# Altium integrated library Разъемы-mm.IntLib: 107 symbols
Pins are listed as number, name and electrical type; pins without a type are passive.

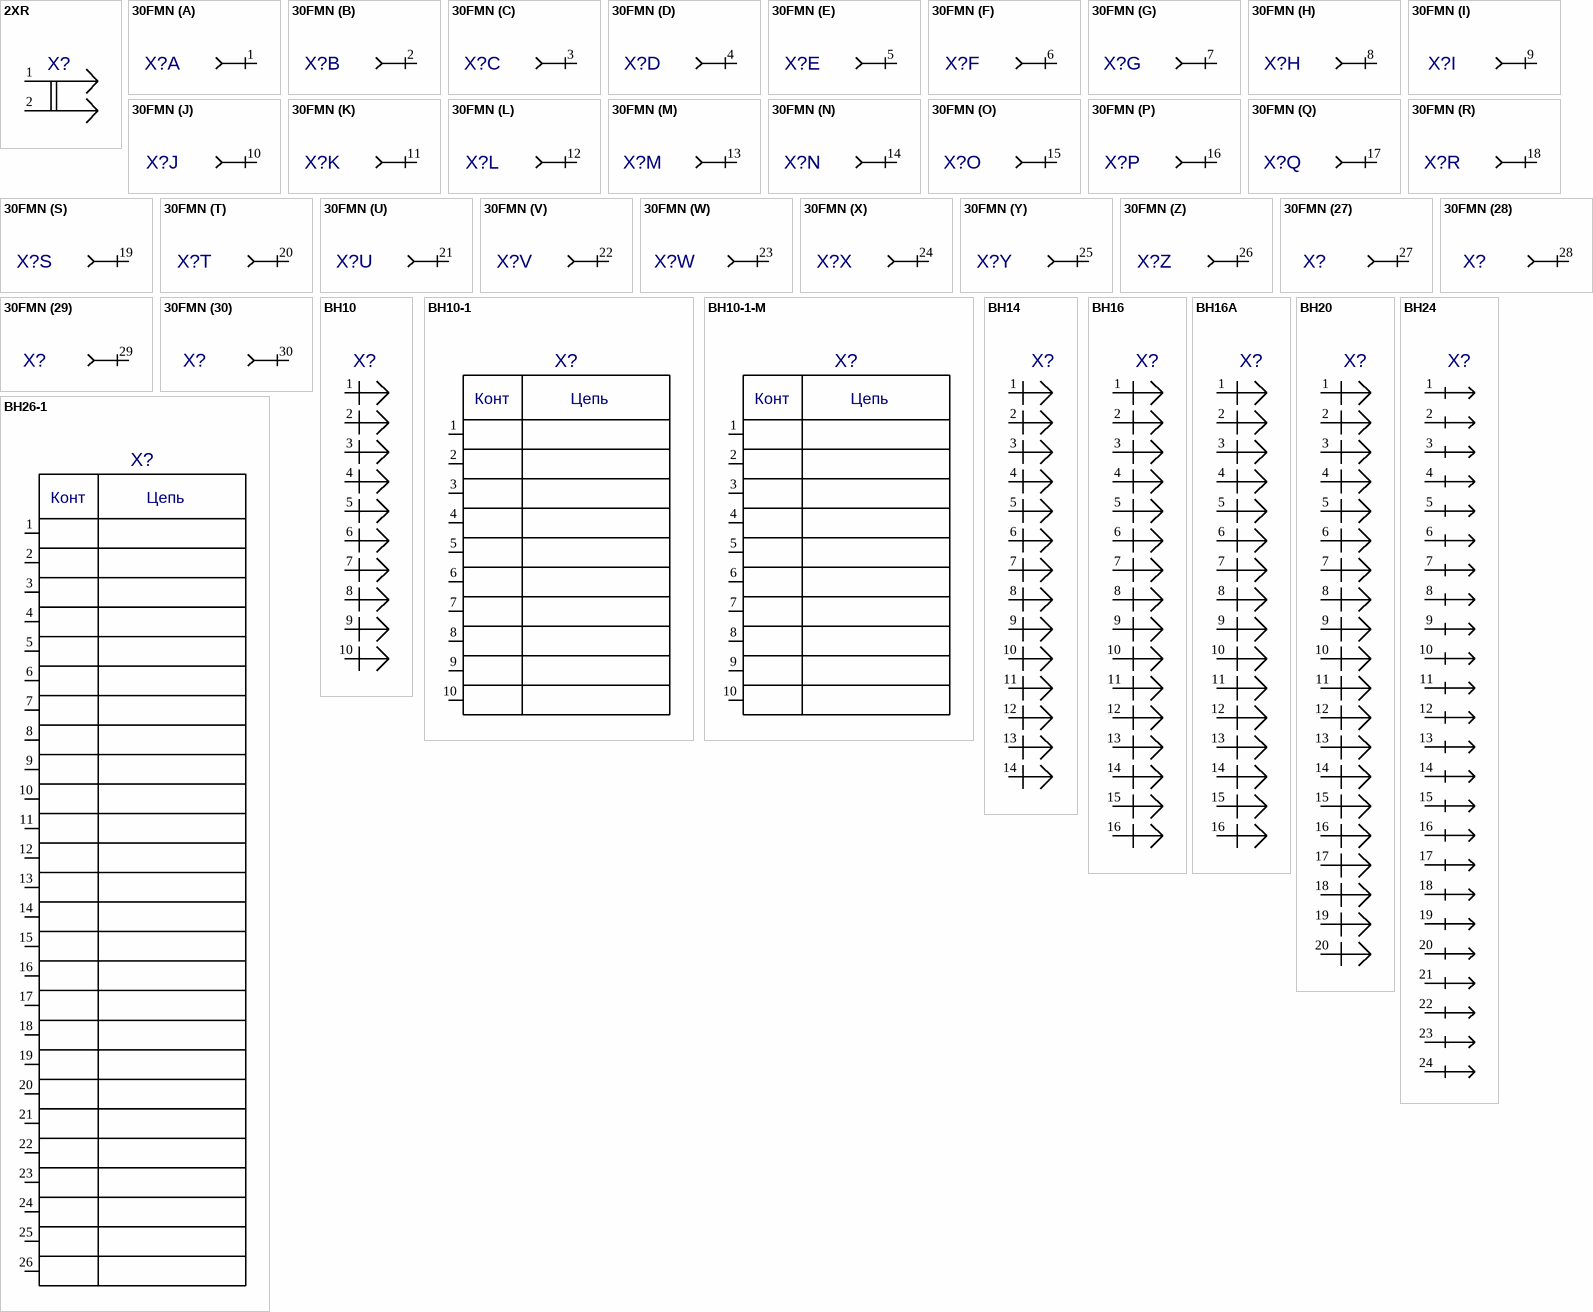
[diagram p0: symbols 2XR to BH26-1]

## 2XR
designator X?  (value not drawn)
Value: *
footprint 2XR
pins: 1 I/O1, 2 I/O2

## 30FMN
designator X?  (value not drawn)
Value: *
footprint 30FMN
part A pins: 1 i/o
part B pins: 2 i/o
part C pins: 3 i/o
part D pins: 4 i/o
part E pins: 5 i/o
part F pins: 6 i/o
part G pins: 7 i/o
part H pins: 8 i/o
part I pins: 9 i/o
part J pins: 10 i/o
part K pins: 11 i/o
part L pins: 12 i/o
part M pins: 13 i/o
part N pins: 14 i/o
part O pins: 15 i/o
part P pins: 16 i/o
part Q pins: 17 i/o
part R pins: 18 i/o
part S pins: 19 i/o
part T pins: 20 i/o
part U pins: 21 i/o
part V pins: 22 i/o
part W pins: 23 i/o
part X pins: 24 i/o
part Y pins: 25 i/o
part Z pins: 26 i/o
part 27 pins: 27 i/o
part 28 pins: 28 i/o
part 29 pins: 29 i/o
part 30 pins: 30 i/o

## BH10
designator X?  (value not drawn)
Value: *
footprint BH10
pins: 1 I/O1, 2 I/O2, 3 I/O3, 4 I/O4, 5 I/O5, 6 I/O6, 7 I/O7, 8 I/O8, 9 I/O9, 10 I/O10

## BH10-1
designator X?  (value not drawn)
Value: *
footprint BH10
pins: 1 I/O1, 2 I/O2, 3 I/O3, 4 I/O4, 5 I/O5, 6 I/O6, 7 I/O7, 8 I/O8, 9 I/O9, 10 I/O10
text: Конт; Цепь

## BH10-1-M
designator X?  (value not drawn)
Value: *
footprint BH10-M
pins: 1 I/O1, 2 I/O2, 3 I/O3, 4 I/O4, 5 I/O5, 6 I/O6, 7 I/O7, 8 I/O8, 9 I/O9, 10 I/O10
text: Конт; Цепь

## BH14
designator X?  (value not drawn)
Value: *
footprint BH14
pins: 1 I/O4, 2 I/O5, 3 I/O6, 4 I/O7, 5 I/O8, 6 I/O9, 7 I/O10, 8 I/O11, 9 I/O12, 10 I/O13, 11 I/O14, 12 I/O1, 13 I/O2, 14 I/O3

## BH16
designator X?  (value not drawn)
Value: *
footprint BH16
pins: 1, 2, 3, 4, 5, 6, 7, 8, 9, 10, 11, 12, 13, 14, 15, 16

## BH16A
designator X?  (value not drawn)
Value: *
footprint BH16A
pins: 1 I/O1, 2 I/O2, 3 I/O3, 4 I/O4, 5 I/O5, 6 I/O6, 7 I/O7, 8 I/O8, 9 I/O9, 10 I/O10, 11 I/O11, 12 I/O12, 13 I/O13, 14 I/O14, 15 I/O15, 16 I/O16

## BH20
designator X?  (value not drawn)
Value: *
footprint BH20
pins: 1 I/O4, 2 I/O5, 3 I/O6, 4 I/O7, 5 I/O8, 6 I/O9, 7 I/O10, 8 I/O11, 9 I/O12, 10 I/O13, 11 I/O14, 12 I/O15, 13 I/O16, 14 I/O17, 15 I/O18, 16 I/O19, 17 I/O20, 18 I/O1, 19 I/O2, 20 I/O3

## BH24
designator X?  (value not drawn)
Value: *
footprint BH24
pins: 1 I/O1, 2 I/O2, 3 I/O3, 4 I/O4, 5 I/O5, 6 I/O6, 7 I/O7, 8 I/O8, 9 I/O9, 10 I/O10, 11 I/O11, 12 I/O12, 13 I/O13, 14 I/O14, 15 I/O15, 16 I/O16, 17 I/O17, 18 I/O18, 19 I/O19, 20 I/O20, 21 I/O21, 22 I/O22, 23 I/O23, 24 I/O24

## BH26-1
designator X?  (value not drawn)
Value: *
footprint BH26
pins: 1 I/O1, 2 I/O2, 3 I/O3, 4 I/O4, 5 I/O5, 6 I/O6, 7 I/O7, 8 I/O8, 9 I/O9, 10 I/O10, 11 I/O11, 12 I/O12, 13 I/O13, 14 I/O14, 15 I/O15, 16 I/O16, 17 I/O17, 18 I/O18, 19 I/O19, 20 I/O20, 21 I/O21, 22 I/O22, 23 I/O23, 24 I/O24, 25 I/O25, 26 I/O26
text: Конт; Цепь

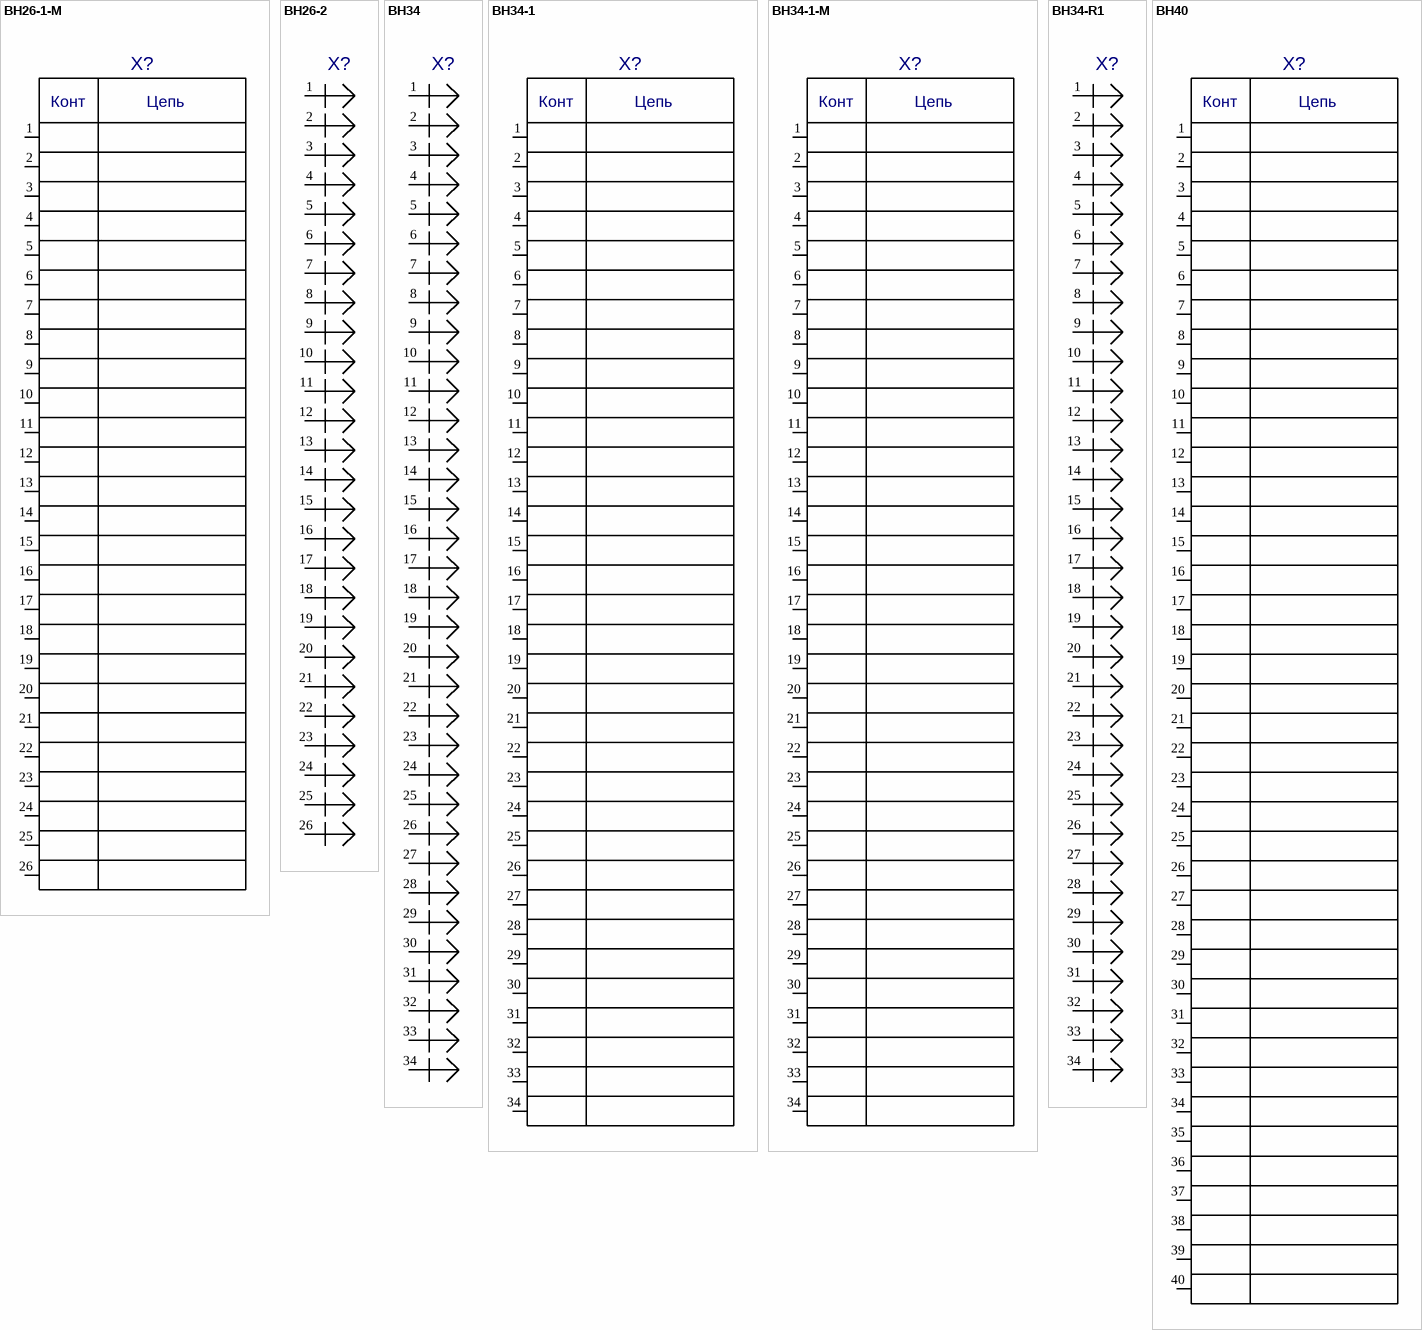
[diagram p1: symbols BH26-1-M to BH40]

## BH26-1-M
designator X?  (value not drawn)
Value: *
footprint BH26-M
pins: 1 I/O1, 2 I/O2, 3 I/O3, 4 I/O4, 5 I/O5, 6 I/O6, 7 I/O7, 8 I/O8, 9 I/O9, 10 I/O10, 11 I/O11, 12 I/O12, 13 I/O13, 14 I/O14, 15 I/O15, 16 I/O16, 17 I/O17, 18 I/O18, 19 I/O19, 20 I/O20, 21 I/O21, 22 I/O22, 23 I/O23, 24 I/O24, 25 I/O25, 26 I/O26
text: Конт; Цепь

## BH26-2
designator X?  (value not drawn)
Value: *
footprint BH26
pins: 1 I/O1, 2 I/O2, 3 I/O3, 4 I/O4, 5 I/O5, 6 I/O6, 7 I/O7, 8 I/O8, 9 I/O9, 10 I/O10, 11 I/O11, 12 I/O12, 13 I/O13, 14 I/O14, 15 I/O15, 16 I/O16, 17 I/O17, 18 I/O18, 19 I/O19, 20 I/O20, 21 I/O21, 22 I/O22, 23 I/O23, 24 I/O24, 25 I/O25, 26 I/O26

## BH34
designator X?  (value not drawn)
Value: *
footprint BH34
pins: 1 I/O1, 2 I/O2, 3 I/O3, 4 I/O4, 5 I/O5, 6 I/O6, 7 I/O7, 8 I/O8, 9 I/O9, 10 I/O10, 11 I/O11, 12 I/O12, 13 I/O13, 14 I/O14, 15 I/O15, 16 I/O16, 17 I/O17, 18 I/O18, 19 I/O19, 20 I/O20, 21 I/O21, 22 I/O22, 23 I/O23, 24 I/O24, 25 I/O25, 26 I/O26, 27 I/O27, 28 I/O28, 29 I/O29, 30 I/O30, 31 I/O31, 32 I/O32, 33 I/O33, 34 I/O34

## BH34-1
designator X?  (value not drawn)
Value: *
footprint BH34
pins: 1, 2, 3, 4, 5, 6, 7, 8, 9, 10, 11, 12, 13, 14, 15, 16, 17, 18, 19, 20, 21, 22, 23, 24, 25, 26, 27, 28, 29, 30, 31, 32, 33, 34
text: Конт; Цепь

## BH34-1-M
designator X?  (value not drawn)
Value: *
footprint BH34-M
pins: 1, 2, 3, 4, 5, 6, 7, 8, 9, 10, 11, 12, 13, 14, 15, 16, 17, 18, 19, 20, 21, 22, 23, 24, 25, 26, 27, 28, 29, 30, 31, 32, 33, 34
text: Конт; Цепь

## BH34-R1
designator X?  (value not drawn)
Value: *
footprint BH-34R_BH34-R1(Primary)
pins: 1 I/O1, 2 I/O2, 3 I/O3, 4 I/O4, 5 I/O5, 6 I/O6, 7 I/O7, 8 I/O8, 9 I/O9, 10 I/O10, 11 I/O11, 12 I/O12, 13 I/O13, 14 I/O14, 15 I/O15, 16 I/O16, 17 I/O17, 18 I/O18, 19 I/O19, 20 I/O20, 21 I/O21, 22 I/O22, 23 I/O23, 24 I/O24, 25 I/O25, 26 I/O26, 27 I/O27, 28 I/O28, 29 I/O29, 30 I/O30, 31 I/O31, 32 I/O32, 33 I/O33, 34 I/O34

## BH40
designator X?  (value not drawn)
Value: *
footprint BH40
pins: 1 I/O1, 2 I/O2, 3 I/O3, 4 I/O4, 5 I/O5, 6 I/O6, 7 I/O7, 8 I/O8, 9 I/O9, 10 I/O10, 11 I/O11, 12 I/O12, 13 I/O13, 14 I/O14, 15 I/O15, 16 I/O16, 17 I/O17, 18 I/O18, 19 I/O19, 20 I/O20, 21 I/O21, 22 I/O22, 23 I/O23, 24 I/O24, 25 I/O25, 26 I/O26, 27 I/O27, 28 I/O28, 29 I/O29, 30 I/O30, 31 I/O31, 32 I/O32, 33 I/O33, 34 I/O34, 35 I/O35, 36 I/O36, 37 I/O37, 38 I/O38, 39 I/O39, 40 I/O40
text: Конт; Цепь

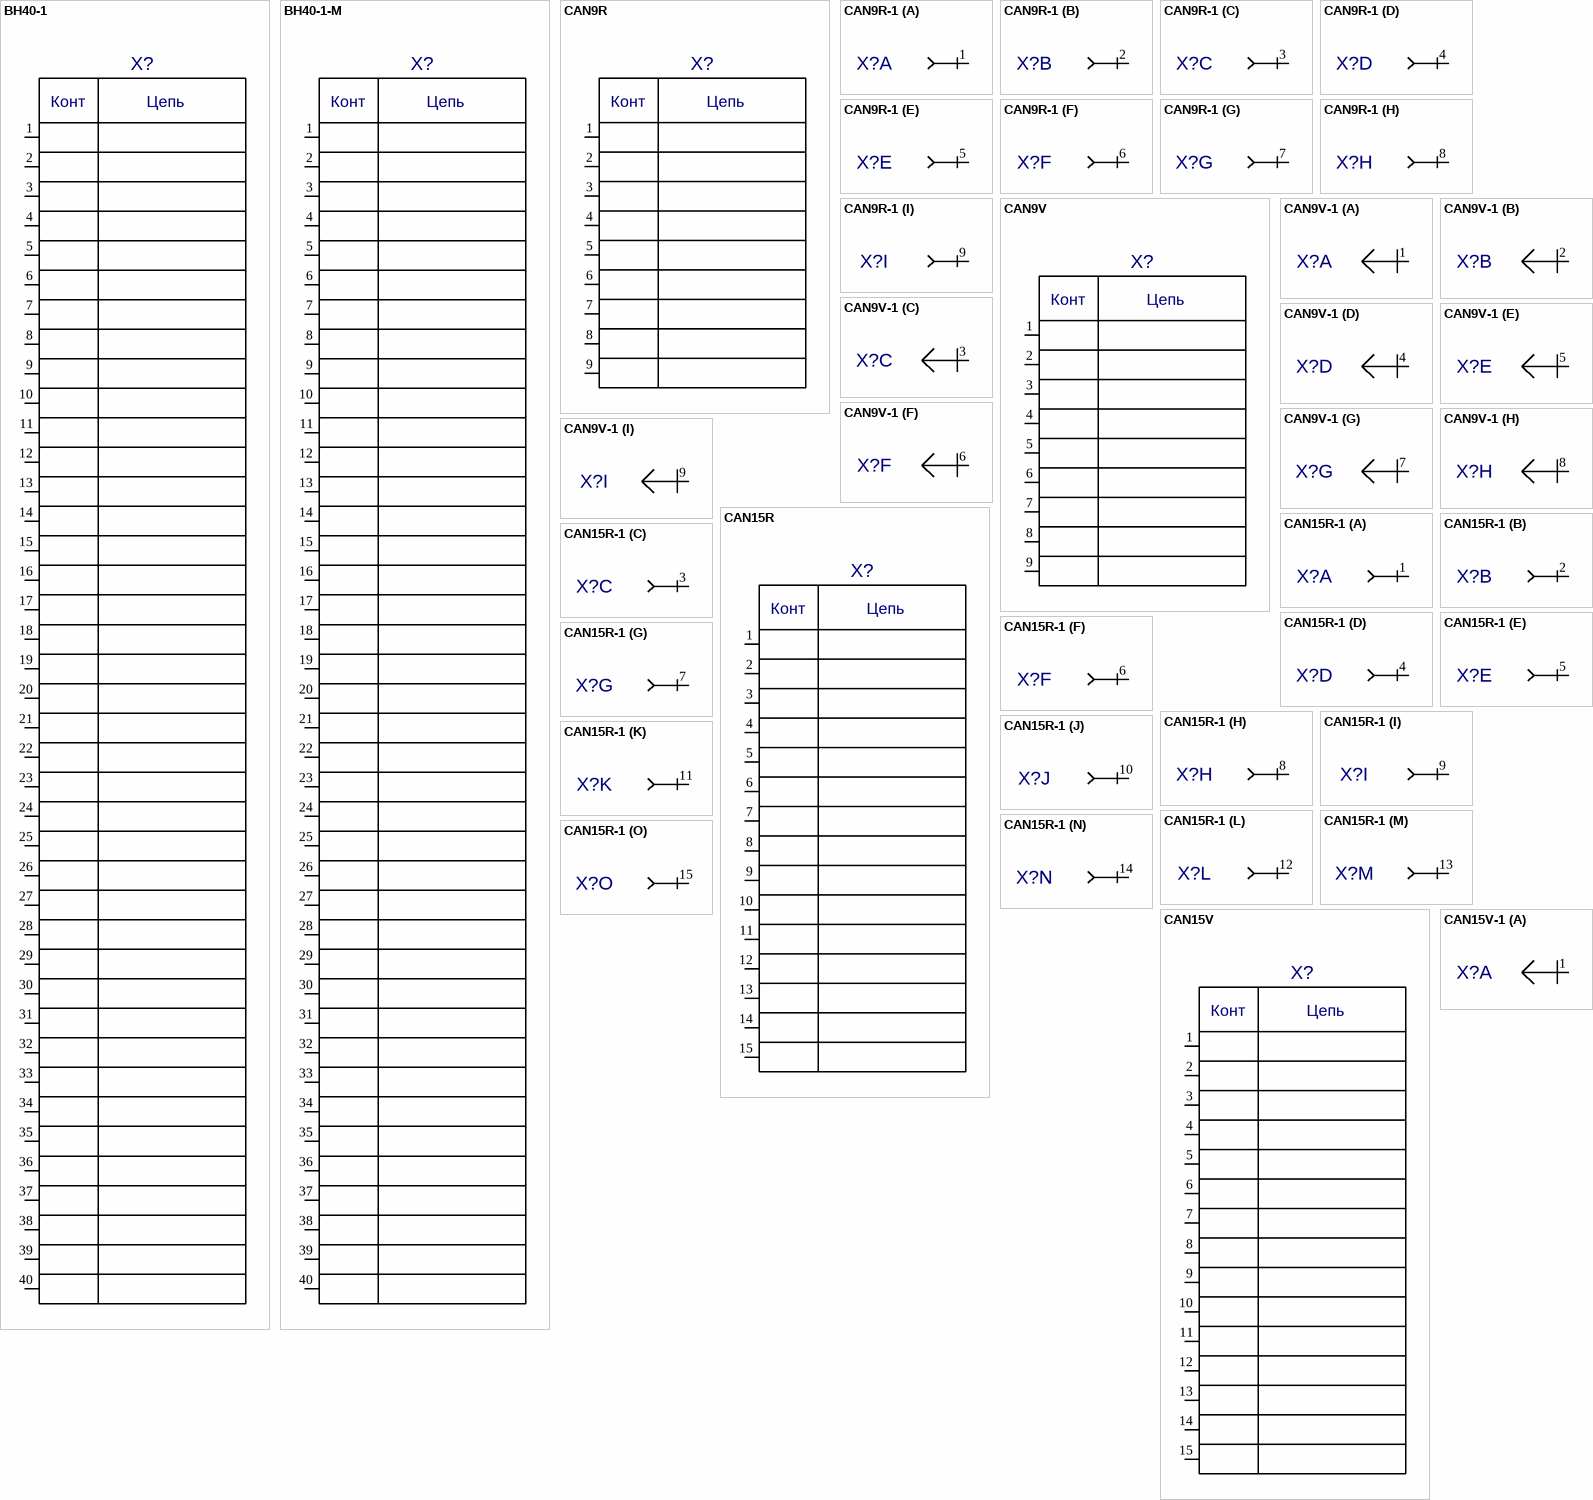
[diagram p2: symbols BH40-1 to CAN15V-1]

## BH40-1
designator X?  (value not drawn)
Value: *
footprint BH40-1
pins: 1 I/O1, 2 I/O2, 3 I/O3, 4 I/O4, 5 I/O5, 6 I/O6, 7 I/O7, 8 I/O8, 9 I/O9, 10 I/O10, 11 I/O11, 12 I/O12, 13 I/O13, 14 I/O14, 15 I/O15, 16 I/O16, 17 I/O17, 18 I/O18, 19 I/O19, 20 I/O20, 21 I/O21, 22 I/O22, 23 I/O23, 24 I/O24, 25 I/O25, 26 I/O26, 27 I/O27, 28 I/O28, 29 I/O29, 30 I/O30, 31 I/O31, 32 I/O32, 33 I/O33, 34 I/O34, 35 I/O35, 36 I/O36, 37 I/O37, 38 I/O38, 39 I/O39, 40 I/O40
text: Конт; Цепь

## BH40-1-M
designator X?  (value not drawn)
Value: *
footprint BH40-M
pins: 1 I/O1, 2 I/O2, 3 I/O3, 4 I/O4, 5 I/O5, 6 I/O6, 7 I/O7, 8 I/O8, 9 I/O9, 10 I/O10, 11 I/O11, 12 I/O12, 13 I/O13, 14 I/O14, 15 I/O15, 16 I/O16, 17 I/O17, 18 I/O18, 19 I/O19, 20 I/O20, 21 I/O21, 22 I/O22, 23 I/O23, 24 I/O24, 25 I/O25, 26 I/O26, 27 I/O27, 28 I/O28, 29 I/O29, 30 I/O30, 31 I/O31, 32 I/O32, 33 I/O33, 34 I/O34, 35 I/O35, 36 I/O36, 37 I/O37, 38 I/O38, 39 I/O39, 40 I/O40
text: Конт; Цепь

## CAN9R
designator X?  (value not drawn)
Value: *
footprint CAN9R
pins: 1 I/O1, 2 I/O2, 3 I/O3, 4 I/O4, 5 I/O5, 6 I/O6, 7 I/O7, 8 I/O8, 9 I/O9, 10 hidden, 11 hidden
text: Конт; Цепь

## CAN9R-1
designator X?  (value not drawn)
Value: *
footprint CAN9R
part A pins: 1 i/o
part B pins: 2 i/o
part C pins: 3 i/o
part D pins: 4 i/o
part E pins: 5 i/o
part F pins: 6 i/o
part G pins: 7 i/o
part H pins: 8 i/o
part I pins: 9 i/o

## CAN9V
designator X?  (value not drawn)
Value: *
footprint CAN9V
pins: 1 I/O1, 2 I/O2, 3 I/O3, 4 I/O4, 5 I/O5, 6 I/O6, 7 I/O7, 8 I/O8, 9 I/O9, 10 hidden, 11 hidden
text: Конт; Цепь

## CAN9V-1
designator X?  (value not drawn)
Value: *
footprint CAN9V
part A pins: 1 i/o
part B pins: 2 i/o
part C pins: 3 i/o
part D pins: 4 i/o
part E pins: 5 i/o
part F pins: 6 i/o
part G pins: 7 i/o
part H pins: 8 i/o
part I pins: 9 i/o

## CAN15R
designator X?  (value not drawn)
Value: *
footprint CAN15R
pins: 1 I/O1, 2 I/O2, 3 I/O3, 4 I/O4, 5 I/O5, 6 I/O6, 7 I/O7, 8 I/O8, 9 I/O9, 10 I/O10, 11 I/O11, 12 I/O12, 13 I/O13, 14 I/O14, 15 I/O15, 16 hidden, 17 hidden
text: Конт; Цепь

## CAN15R-1
designator X?  (value not drawn)
Value: *
footprint CAN15R
part A pins: 1 i/o
part B pins: 2 i/o
part C pins: 3 i/o
part D pins: 4 i/o
part E pins: 5 i/o
part F pins: 6 i/o
part G pins: 7 i/o
part H pins: 8 i/o
part I pins: 9 i/o
part J pins: 10 i/o
part K pins: 11 i/o
part L pins: 12 i/o
part M pins: 13 i/o
part N pins: 14 i/o
part O pins: 15 i/o

## CAN15V
designator X?  (value not drawn)
Value: *
footprint CAN15V
pins: 1 I/O1, 2 I/O2, 3 I/O3, 4 I/O4, 5 I/O5, 6 I/O6, 7 I/O7, 8 I/O8, 9 I/O9, 10 I/O10, 11 I/O11, 12 I/O12, 13 I/O13, 14 I/O14, 15 I/O15, 16 hidden, 17 hidden
text: Конт; Цепь

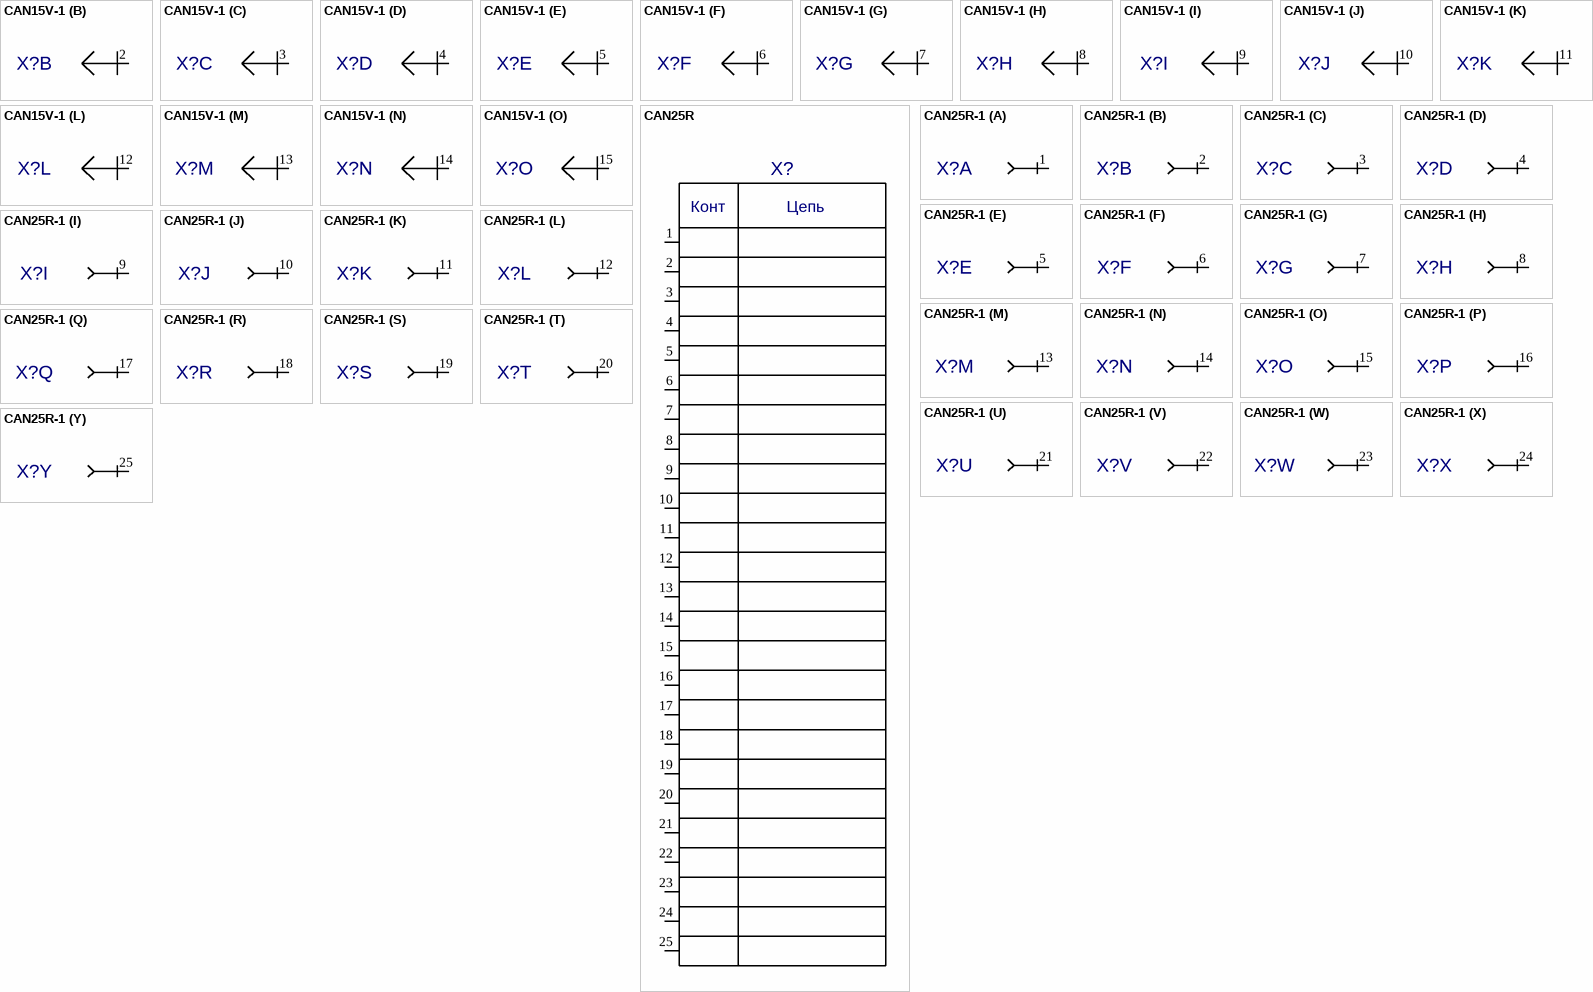
[diagram p3: symbols CAN15V-1 to CAN25R-1]

## CAN15V-1
designator X?  (value not drawn)
Value: *
footprint CAN15V
part A pins: 1 i/o
part B pins: 2 i/o
part C pins: 3 i/o
part D pins: 4 i/o
part E pins: 5 i/o
part F pins: 6 i/o
part G pins: 7 i/o
part H pins: 8 i/o
part I pins: 9 i/o
part J pins: 10 i/o
part K pins: 11 i/o
part L pins: 12 i/o
part M pins: 13 i/o
part N pins: 14 i/o
part O pins: 15 i/o

## CAN25R
designator X?  (value not drawn)
Value: *
footprint CAN25R
pins: 1 I/O1, 2 I/O2, 3 I/O3, 4 I/O4, 5 I/O5, 6 I/O6, 7 I/O7, 8 I/O8, 9 I/O9, 10 I/O10, 11 I/O11, 12 I/O12, 13 I/O13, 14 I/O14, 15 I/O15, 16 I/O16, 17 I/O17, 18 I/O18, 19 I/O19, 20 I/O20, 21 I/O21, 22 I/O22, 23 I/O23, 24 I/O24, 25 I/O25, 26 hidden, 27 hidden
text: Конт; Цепь

## CAN25R-1
designator X?  (value not drawn)
Value: *
footprint CAN25R
part A pins: 1 i/o
part B pins: 2 i/o
part C pins: 3 i/o
part D pins: 4 i/o
part E pins: 5 i/o
part F pins: 6 i/o
part G pins: 7 i/o
part H pins: 8 i/o
part I pins: 9 i/o
part J pins: 10 i/o
part K pins: 11 i/o
part L pins: 12 i/o
part M pins: 13 i/o
part N pins: 14 i/o
part O pins: 15 i/o
part P pins: 16 i/o
part Q pins: 17 i/o
part R pins: 18 i/o
part S pins: 19 i/o
part T pins: 20 i/o
part U pins: 21 i/o
part V pins: 22 i/o
part W pins: 23 i/o
part X pins: 24 i/o
part Y pins: 25 i/o

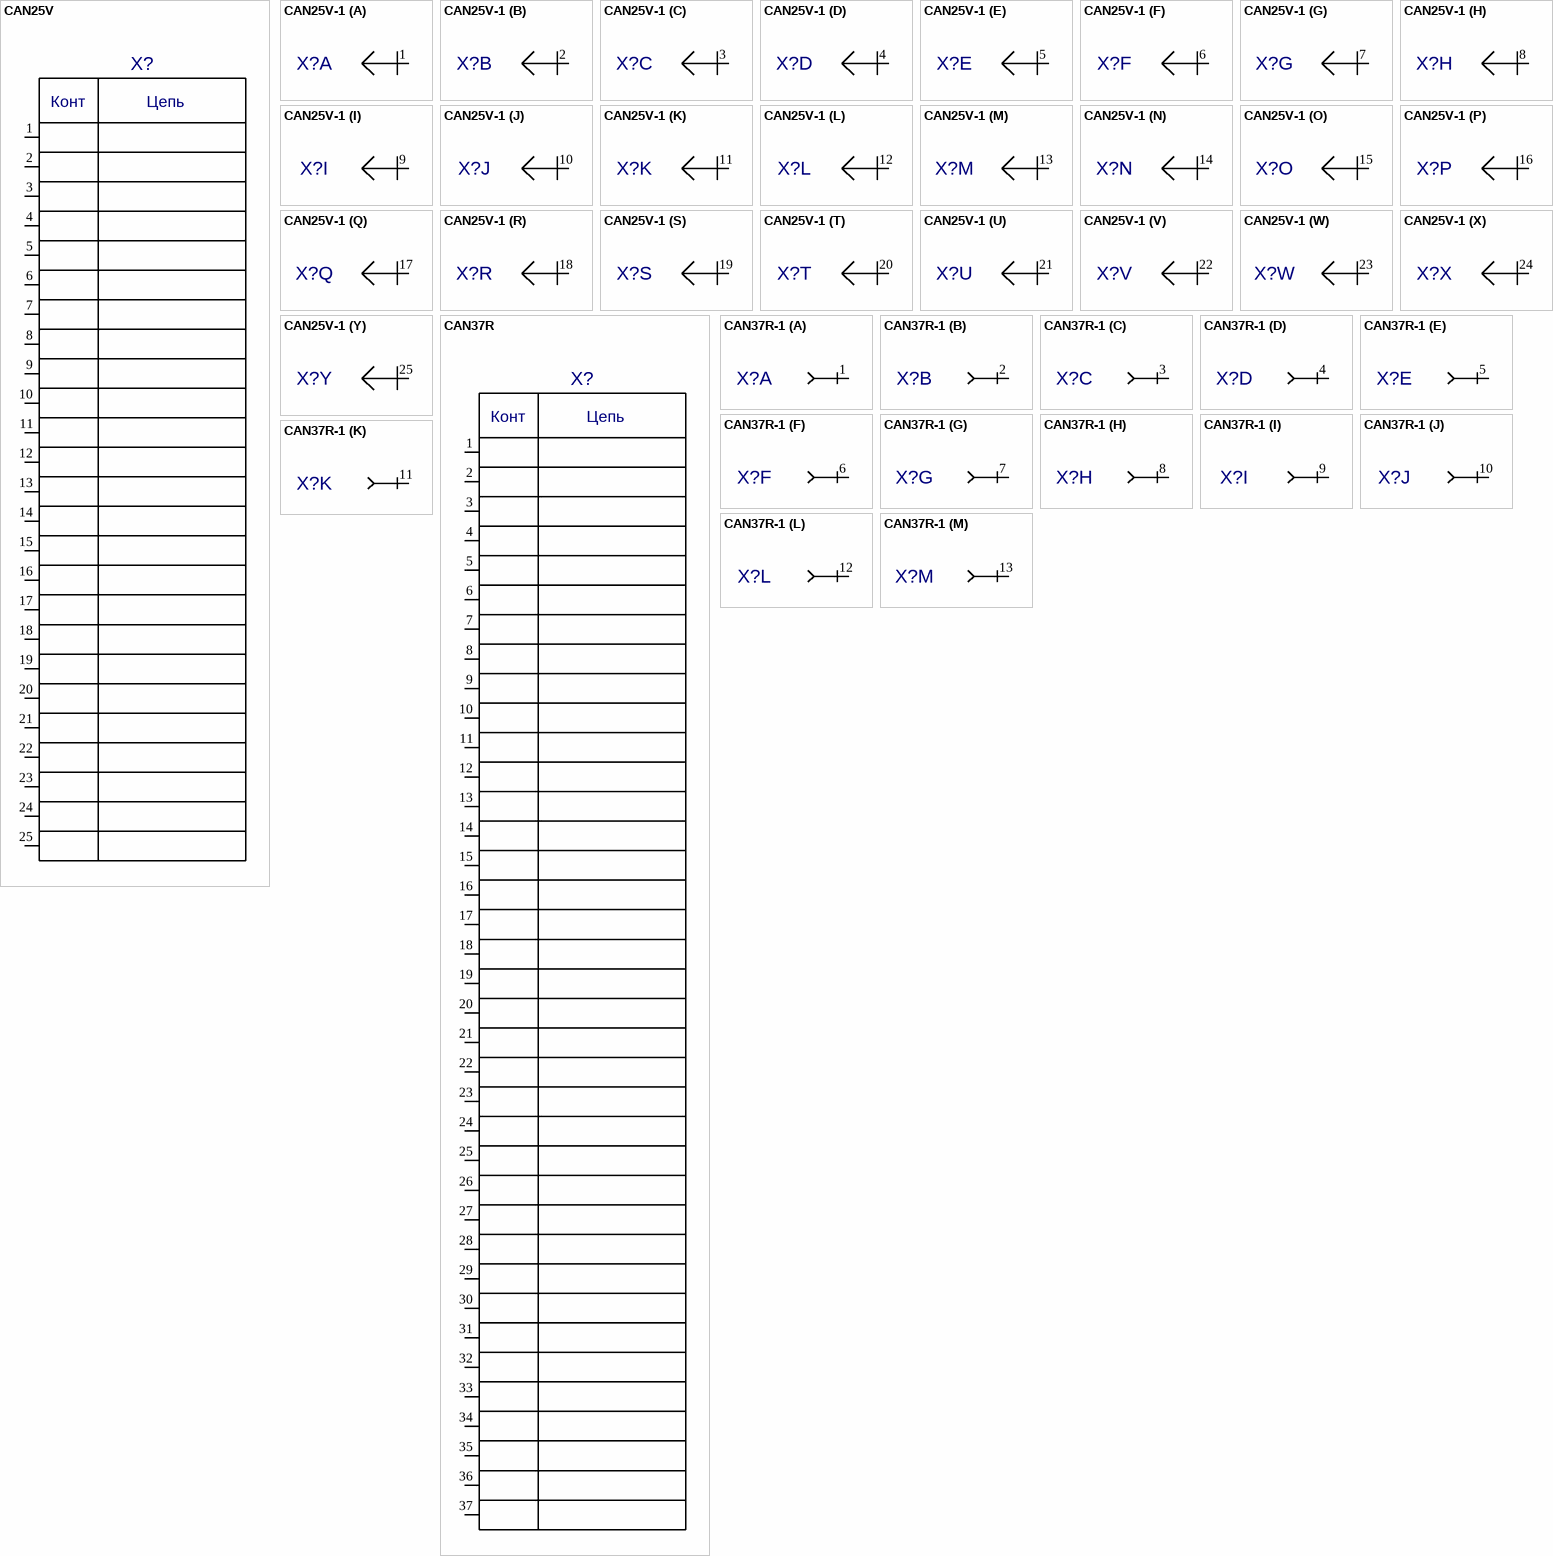
[diagram p4: symbols CAN25V to CAN37R-1]

## CAN25V
designator X?  (value not drawn)
Value: *
footprint CAN25V
pins: 1 I/O1, 2 I/O2, 3 I/O3, 4 I/O4, 5 I/O5, 6 I/O6, 7 I/O7, 8 I/O8, 9 I/O9, 10 I/O10, 11 I/O11, 12 I/O12, 13 I/O13, 14 I/O14, 15 I/O15, 16 I/O16, 17 I/O17, 18 I/O18, 19 I/O19, 20 I/O20, 21 I/O21, 22 I/O22, 23 I/O23, 24 I/O24, 25 I/O25, 26 hidden, 27 hidden
text: Конт; Цепь

## CAN25V-1
designator X?  (value not drawn)
Value: *
footprint CAN25V
part A pins: 1 i/o
part B pins: 2 i/o
part C pins: 3 i/o
part D pins: 4 i/o
part E pins: 5 i/o
part F pins: 6 i/o
part G pins: 7 i/o
part H pins: 8 i/o
part I pins: 9 i/o
part J pins: 10 i/o
part K pins: 11 i/o
part L pins: 12 i/o
part M pins: 13 i/o
part N pins: 14 i/o
part O pins: 15 i/o
part P pins: 16 i/o
part Q pins: 17 i/o
part R pins: 18 i/o
part S pins: 19 i/o
part T pins: 20 i/o
part U pins: 21 i/o
part V pins: 22 i/o
part W pins: 23 i/o
part X pins: 24 i/o
part Y pins: 25 i/o

## CAN37R
designator X?  (value not drawn)
Value: *
footprint CAN37R
pins: 1 I/O1, 2 I/O2, 3 I/O3, 4 I/O4, 5 I/O5, 6 I/O6, 7 I/O7, 8 I/O8, 9 I/O9, 10 I/O10, 11 I/O11, 12 I/O12, 13 I/O13, 14 I/O14, 15 I/O15, 16 I/O16, 17 I/O17, 18 I/O18, 19 I/O19, 20 I/O20, 21 I/O21, 22 I/O22, 23 I/O23, 24 I/O24, 25 I/O25, 26 I/O26, 27 I/O27, 28 I/O28, 29 I/O29, 30 I/O30, 31 I/O31, 32 I/O32, 33 I/O33, 34 I/O34, 35 I/O35, 36 I/O36, 37 I/O37, 38 hidden, 39 hidden
text: Конт; Цепь

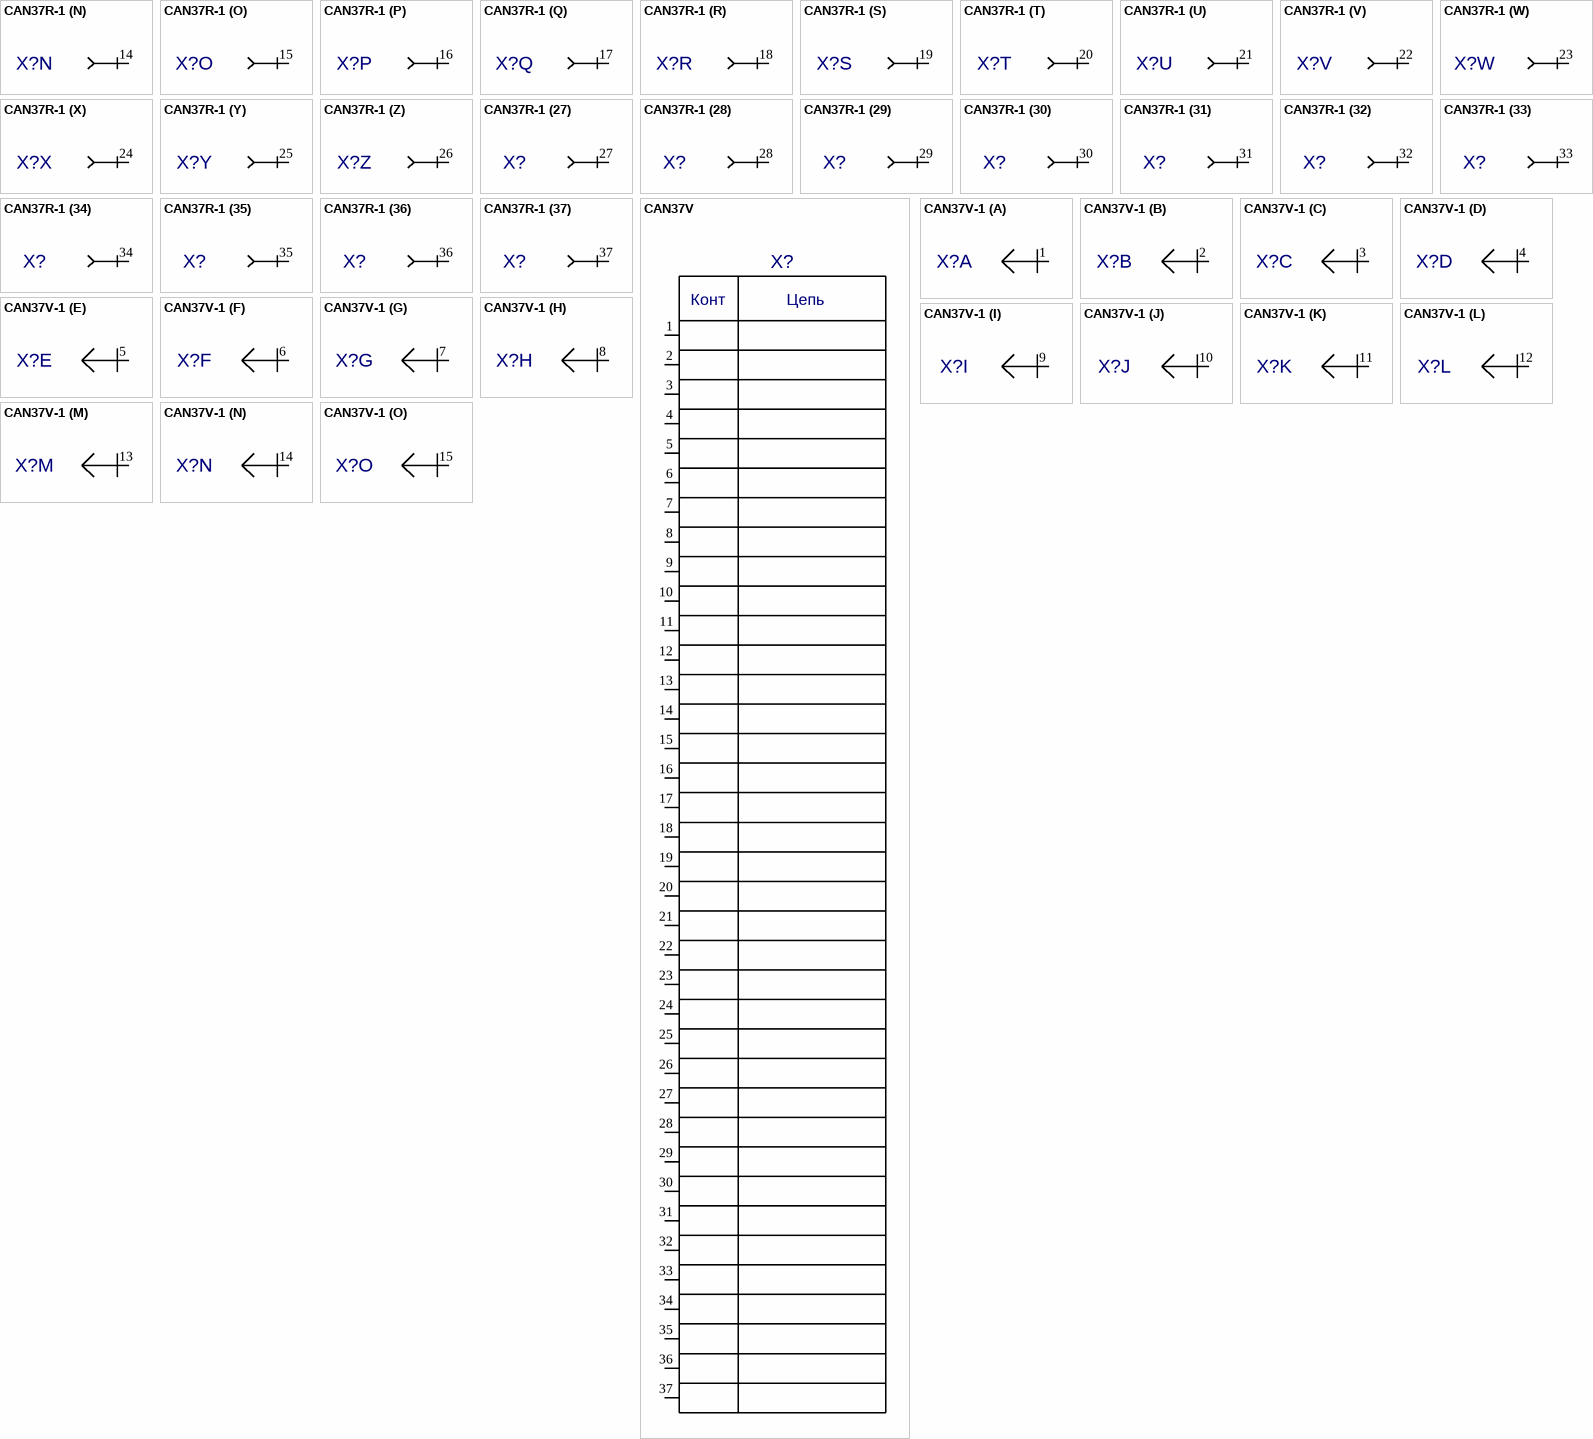
[diagram p5: symbols CAN37R-1 to CAN37V-1]

## CAN37R-1
designator X?  (value not drawn)
Value: *
footprint CAN37R
part A pins: 1 i/o
part B pins: 2 i/o
part C pins: 3 i/o
part D pins: 4 i/o
part E pins: 5 i/o
part F pins: 6 i/o
part G pins: 7 i/o
part H pins: 8 i/o
part I pins: 9 i/o
part J pins: 10 i/o
part K pins: 11 i/o
part L pins: 12 i/o
part M pins: 13 i/o
part N pins: 14 i/o
part O pins: 15 i/o
part P pins: 16 i/o
part Q pins: 17 i/o
part R pins: 18 i/o
part S pins: 19 i/o
part T pins: 20 i/o
part U pins: 21 i/o
part V pins: 22 i/o
part W pins: 23 i/o
part X pins: 24 i/o
part Y pins: 25 i/o
part Z pins: 26 i/o
part 27 pins: 27 i/o
part 28 pins: 28 i/o
part 29 pins: 29 i/o
part 30 pins: 30 i/o
part 31 pins: 31 i/o
part 32 pins: 32 i/o
part 33 pins: 33 i/o
part 34 pins: 34 i/o
part 35 pins: 35 i/o
part 36 pins: 36 i/o
part 37 pins: 37 i/o

## CAN37V
designator X?  (value not drawn)
Value: *
footprint CAN37V
pins: 1 I/O1, 2 I/O2, 3 I/O3, 4 I/O4, 5 I/O5, 6 I/O6, 7 I/O7, 8 I/O8, 9 I/O9, 10 I/O10, 11 I/O11, 12 I/O12, 13 I/O13, 14 I/O14, 15 I/O15, 16 I/O16, 17 I/O17, 18 I/O18, 19 I/O19, 20 I/O20, 21 I/O21, 22 I/O22, 23 I/O23, 24 I/O24, 25 I/O25, 26 I/O26, 27 I/O27, 28 I/O28, 29 I/O29, 30 I/O30, 31 I/O31, 32 I/O32, 33 I/O33, 34 I/O34, 35 I/O35, 36 I/O36, 37 I/O37, 38 hidden, 39 hidden
text: Конт; Цепь

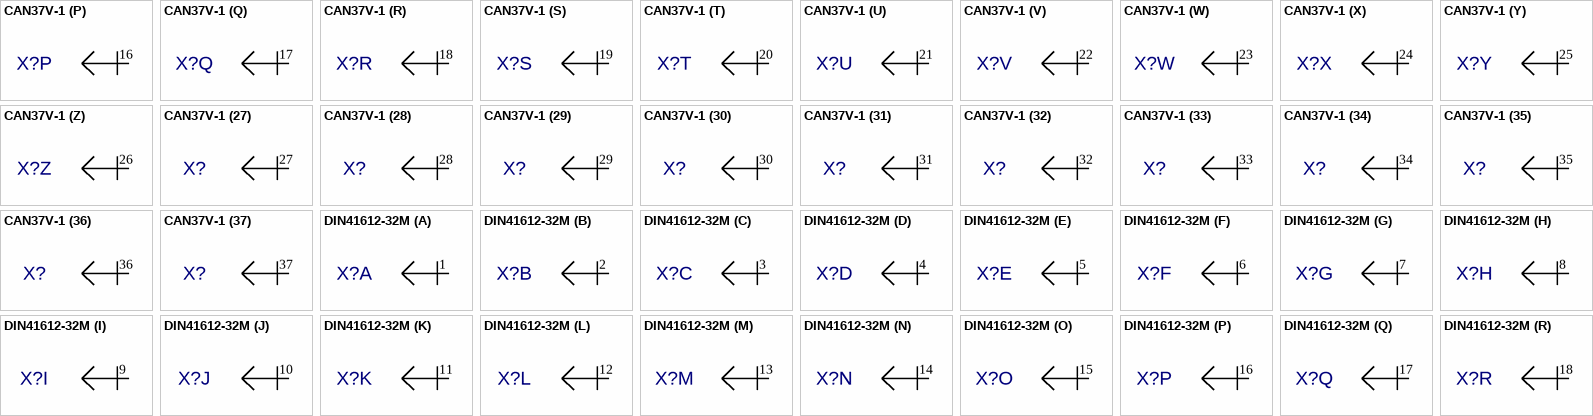
[diagram p6: symbols CAN37V-1 to DIN41612-32M]

## CAN37V-1
designator X?  (value not drawn)
Value: *
footprint CAN37V
part A pins: 1 i/o
part B pins: 2 i/o
part C pins: 3 i/o
part D pins: 4 i/o
part E pins: 5 i/o
part F pins: 6 i/o
part G pins: 7 i/o
part H pins: 8 i/o
part I pins: 9 i/o
part J pins: 10 i/o
part K pins: 11 i/o
part L pins: 12 i/o
part M pins: 13 i/o
part N pins: 14 i/o
part O pins: 15 i/o
part P pins: 16 i/o
part Q pins: 17 i/o
part R pins: 18 i/o
part S pins: 19 i/o
part T pins: 20 i/o
part U pins: 21 i/o
part V pins: 22 i/o
part W pins: 23 i/o
part X pins: 24 i/o
part Y pins: 25 i/o
part Z pins: 26 i/o
part 27 pins: 27 i/o
part 28 pins: 28 i/o
part 29 pins: 29 i/o
part 30 pins: 30 i/o
part 31 pins: 31 i/o
part 32 pins: 32 i/o
part 33 pins: 33 i/o
part 34 pins: 34 i/o
part 35 pins: 35 i/o
part 36 pins: 36 i/o
part 37 pins: 37 i/o

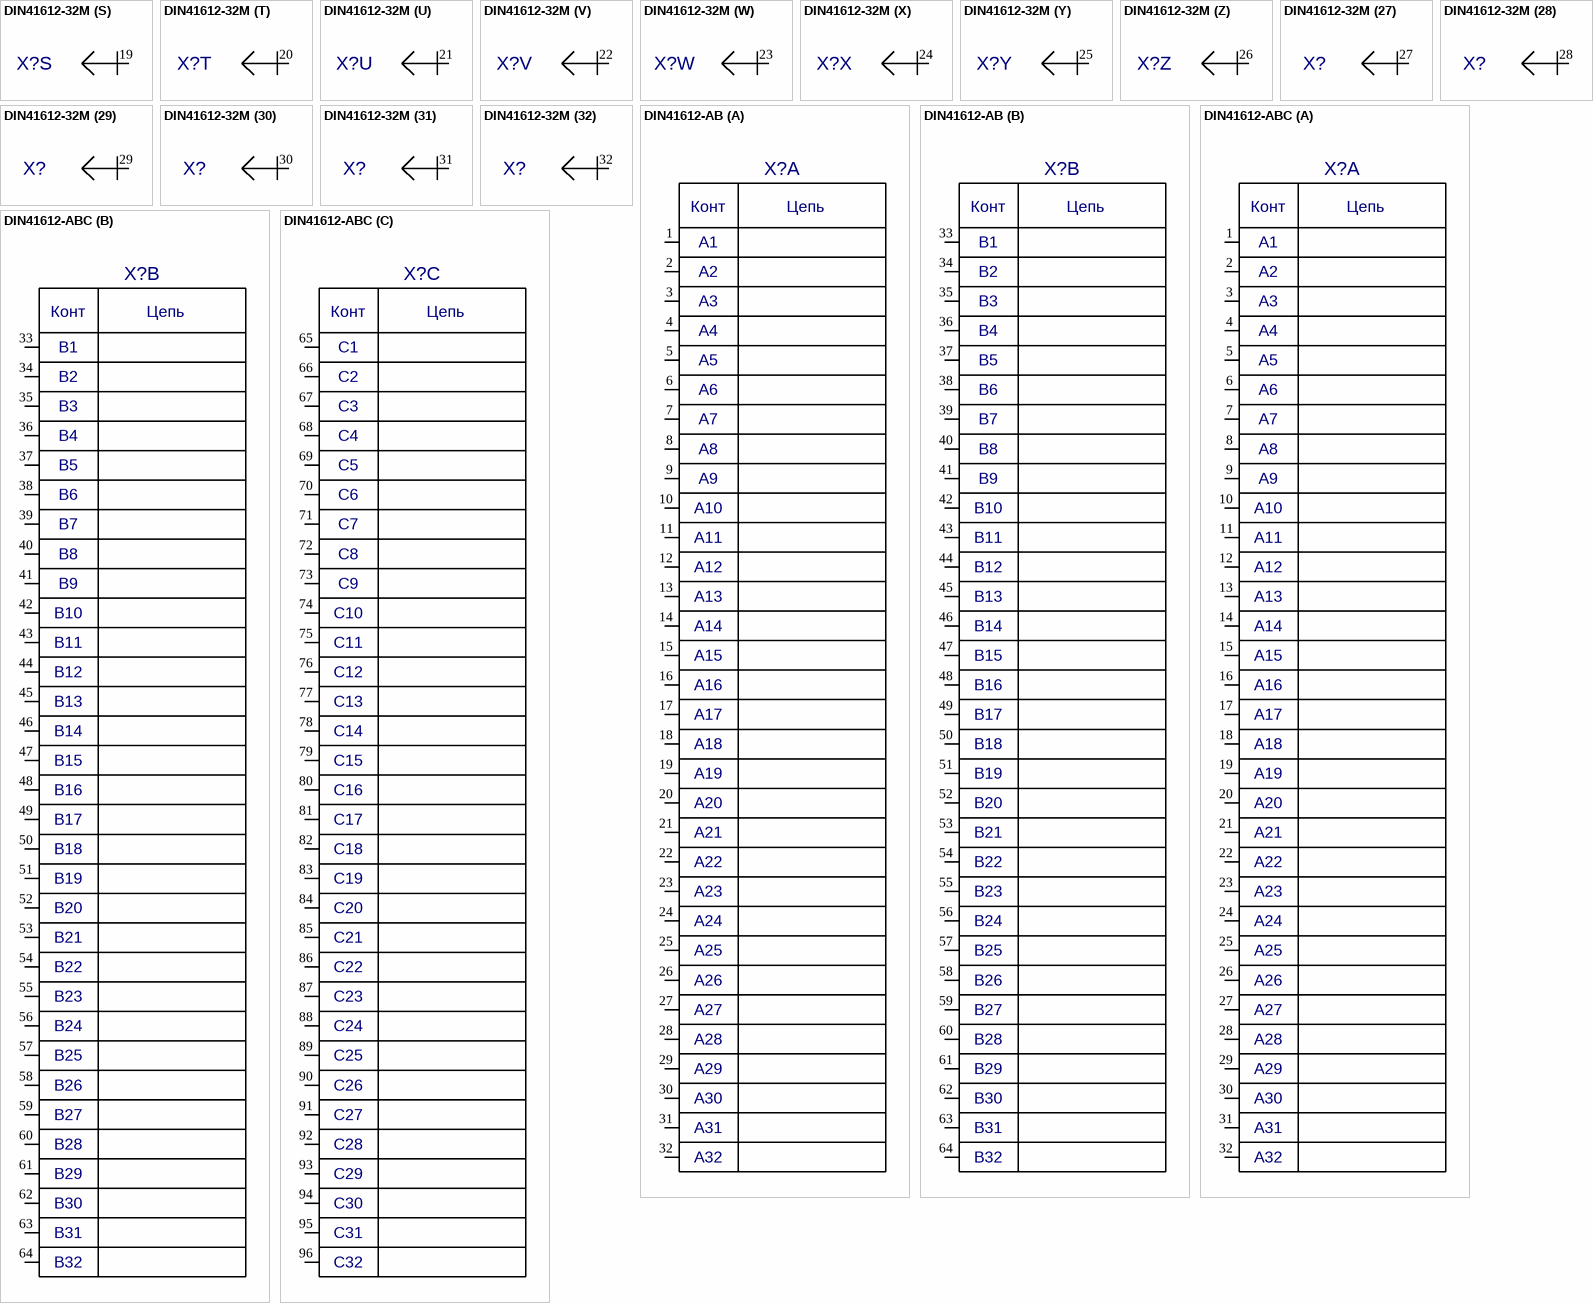
[diagram p7: symbols DIN41612-32M to DIN41612-ABC]

## DIN41612-32M
designator X?  (value not drawn)
Value: *
footprint XX32-2M
part A pins: 1 Z2
part B pins: 2 Z4
part C pins: 3 Z6
part D pins: 4 Z8
part E pins: 5 Z10
part F pins: 6 Z12
part G pins: 7 Z14
part H pins: 8 Z16
part I pins: 9 Z18
part J pins: 10 Z20
part K pins: 11 Z22
part L pins: 12 Z24
part M pins: 13 Z26
part N pins: 14 Z28
part O pins: 15 Z30
part P pins: 16 Z32
part Q pins: 17 D2
part R pins: 18 D4
part S pins: 19 D6
part T pins: 20 D8
part U pins: 21 D10
part V pins: 22 D12
part W pins: 23 D14
part X pins: 24 D16
part Y pins: 25 D18
part Z pins: 26 D20
part 27 pins: 27 D22
part 28 pins: 28 D24
part 29 pins: 29 D26
part 30 pins: 30 D28
part 31 pins: 31 D30
part 32 pins: 32 D32

## DIN41612-AB
designator X?  (value not drawn)
Value: *
footprint XX64-1
pins on every part: 65 hidden, 66 hidden
part A pins: 1 I/O1, 2 I/O2, 3 I/O3, 4 I/O4, 5 I/O5, 6 I/O6, 7 I/O7, 8 I/O8, 9 I/O9, 10 I/O10, 11 I/O11, 12 I/O12, 13 I/O13, 14 I/O14, 15 I/O15, 16 I/O16, 17 I/O17, 18 I/O18, 19 I/O19, 20 I/O20, 21 I/O21, 22 I/O22, 23 I/O23, 24 I/O24, 25 I/O25, 26 I/O26, 27 I/O27, 28 I/O28, 29 I/O29, 30 I/O30, 31 I/O31, 32 I/O32
part B pins: 33 I/O1, 34 I/O2, 35 I/O3, 36 I/O4, 37 I/O5, 38 I/O6, 39 I/O7, 40 I/O8, 41 I/O9, 42 I/O10, 43 I/O11, 44 I/O12, 45 I/O13, 46 I/O14, 47 I/O15, 48 I/O16, 49 I/O17, 50 I/O18, 51 I/O19, 52 I/O20, 53 I/O21, 54 I/O22, 55 I/O23, 56 I/O24, 57 I/O25, 58 I/O26, 59 I/O27, 60 I/O28, 61 I/O29, 62 I/O30, 63 I/O31, 64 I/O32
part A text: Конт; Цепь; A1; A2; A3; A4; A5; A6; A7; A8; A9; A10; A11; A12; A13; A14; A15; A16; A17; A18; A19; A20; A21; A22; A23; A24; A25; A26; A27; A28; A29; A30; A31; A32
part B text: Конт; Цепь; B1; B2; B3; B4; B5; B6; B7; B8; B9; B10; B11; B12; B13; B14; B15; B16; B17; B18; B19; B20; B21; B22; B23; B24; B25; B26; B27; B28; B29; B30; B31; B32

## DIN41612-ABC
designator X?  (value not drawn)
Value: *
footprint XX96
pins on every part: 97 hidden, 98 hidden
part A pins: 1 I/O1, 2 I/O2, 3 I/O3, 4 I/O4, 5 I/O5, 6 I/O6, 7 I/O7, 8 I/O8, 9 I/O9, 10 I/O10, 11 I/O11, 12 I/O12, 13 I/O13, 14 I/O14, 15 I/O15, 16 I/O16, 17 I/O17, 18 I/O18, 19 I/O19, 20 I/O20, 21 I/O21, 22 I/O22, 23 I/O23, 24 I/O24, 25 I/O25, 26 I/O26, 27 I/O27, 28 I/O28, 29 I/O29, 30 I/O30, 31 I/O31, 32 I/O32
part B pins: 33 I/O1, 34 I/O2, 35 I/O3, 36 I/O4, 37 I/O5, 38 I/O6, 39 I/O7, 40 I/O8, 41 I/O9, 42 I/O10, 43 I/O11, 44 I/O12, 45 I/O13, 46 I/O14, 47 I/O15, 48 I/O16, 49 I/O17, 50 I/O18, 51 I/O19, 52 I/O20, 53 I/O21, 54 I/O22, 55 I/O23, 56 I/O24, 57 I/O25, 58 I/O26, 59 I/O27, 60 I/O28, 61 I/O29, 62 I/O30, 63 I/O31, 64 I/O32
part C pins: 65 I/O1, 66 I/O2, 67 I/O3, 68 I/O4, 69 I/O5, 70 I/O6, 71 I/O7, 72 I/O8, 73 I/O9, 74 I/O10, 75 I/O11, 76 I/O12, 77 I/O13, 78 I/O14, 79 I/O15, 80 I/O16, 81 I/O17, 82 I/O18, 83 I/O19, 84 I/O20, 85 I/O21, 86 I/O22, 87 I/O23, 88 I/O24, 89 I/O25, 90 I/O26, 91 I/O27, 92 I/O28, 93 I/O29, 94 I/O30, 95 I/O31, 96 I/O32
part A text: Конт; Цепь; A1; A2; A3; A4; A5; A6; A7; A8; A9; A10; A11; A12; A13; A14; A15; A16; A17; A18; A19; A20; A21; A22; A23; A24; A25; A26; A27; A28; A29; A30; A31; A32
part B text: Конт; Цепь; B1; B2; B3; B4; B5; B6; B7; B8; B9; B10; B11; B12; B13; B14; B15; B16; B17; B18; B19; B20; B21; B22; B23; B24; B25; B26; B27; B28; B29; B30; B31; B32
part C text: Конт; Цепь; C1; C2; C3; C4; C5; C6; C7; C8; C9; C10; C11; C12; C13; C14; C15; C16; C17; C18; C19; C20; C21; C22; C23; C24; C25; C26; C27; C28; C29; C30; C31; C32

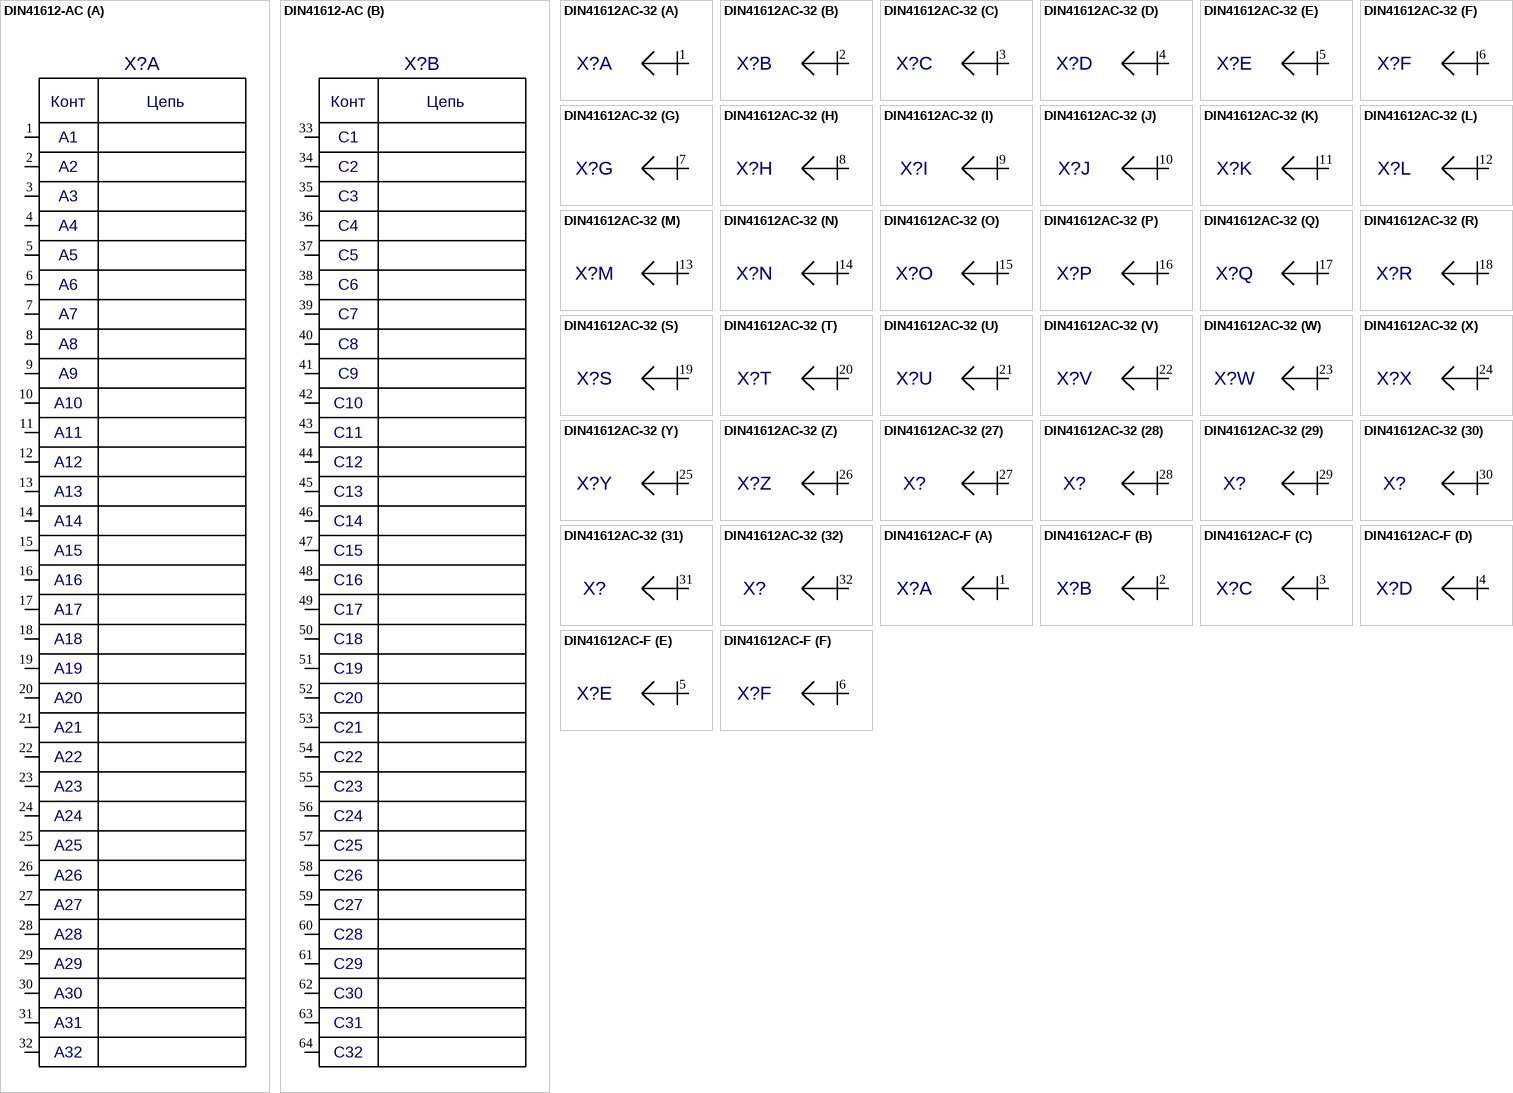
[diagram p8: symbols DIN41612-AC to DIN41612AC-F]

## DIN41612-AC
designator X?  (value not drawn)
Value: *
footprint XX64-2
part A pins: 1 A1, 2 A2, 3 A3, 4 A4, 5 A5, 6 A6, 7 A7, 8 A8, 9 A9, 10 A10, 11 A11, 12 A12, 13 A13, 14 A14, 15 A15, 16 A16, 17 A17, 18 A18, 19 A19, 20 A20, 21 A21, 22 A22, 23 A23, 24 A24, 25 A25, 26 A26, 27 A27, 28 A28, 29 A28, 30 A30, 31 A31, 32 A32
part B pins: 33 C1, 34 C2, 35 C3, 36 C4, 37 C5, 38 C6, 39 C7, 40 C8, 41 C9, 42 C10, 43 C11, 44 C12, 45 C13, 46 C14, 47 C15, 48 C16, 49 C17, 50 C18, 51 C19, 52 C20, 53 C21, 54 C22, 55 C23, 56 C24, 57 C25, 58 C26, 59 C27, 60 C28, 61 C29, 62 C30, 63 C31, 64 C32
part A text: Конт; Цепь; A29
part B text: Конт; Цепь

## DIN41612AC-32
designator X?  (value not drawn)
Value: *
footprint XX32-2
part A pins: 1 A1
part B pins: 2 A2
part C pins: 3 A3
part D pins: 4 A4
part E pins: 5 A5
part F pins: 6 A6
part G pins: 7 A7
part H pins: 8 A8
part I pins: 9 A9
part J pins: 10 A10
part K pins: 11 A11
part L pins: 12 A12
part M pins: 13 A13
part N pins: 14 A14
part O pins: 15 A15
part P pins: 16 A16
part Q pins: 17 C1
part R pins: 18 C2
part S pins: 19 C3
part T pins: 20 C4
part U pins: 21 C5
part V pins: 22 C6
part W pins: 23 C7
part X pins: 24 C8
part Y pins: 25 C9
part Z pins: 26 C10
part 27 pins: 27 C11
part 28 pins: 28 C12
part 29 pins: 29 C13
part 30 pins: 30 C14
part 31 pins: 31 C15
part 32 pins: 32 C16

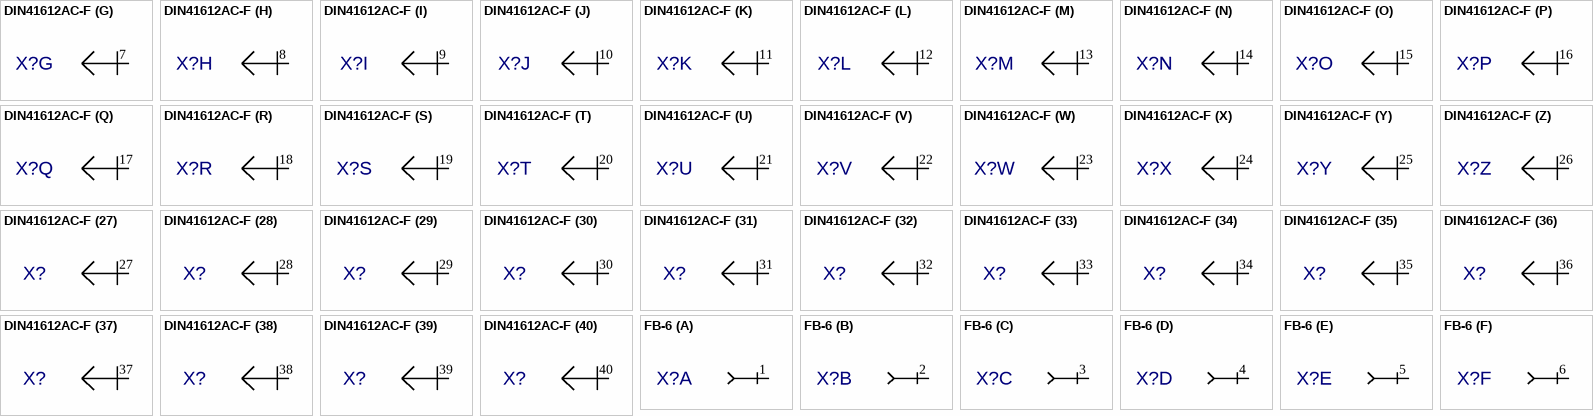
[diagram p9: symbols DIN41612AC-F to FB-6]

## DIN41612AC-F
designator X?  (value not drawn)
Value: *
footprint XX64-2
part A pins: 1 A1
part B pins: 2 A2
part C pins: 3 A3
part D pins: 4 A4
part E pins: 5 A5
part F pins: 6 A6
part G pins: 7 A7
part H pins: 8 A8
part I pins: 9 A9
part J pins: 10 A10
part K pins: 11 A11
part L pins: 12 A12
part M pins: 13 A13
part N pins: 14 A14
part O pins: 15 A15
part P pins: 16 A16
part Q pins: 17 A17
part R pins: 18 A18
part S pins: 19 A19
part T pins: 20 A20
part U pins: 21 A21
part V pins: 22 A22
part W pins: 23 A23
part X pins: 24 A24
part Y pins: 25 A25
part Z pins: 26 A26
part 27 pins: 27 A27
part 28 pins: 28 A28
part 29 pins: 29 A29
part 30 pins: 30 A30
part 31 pins: 31 A31
part 32 pins: 32 A32
part 33 pins: 33 C1
part 34 pins: 34 C2
part 35 pins: 35 C3
part 36 pins: 36 C4
part 37 pins: 37 C5
part 38 pins: 38 C6
part 39 pins: 39 C7
part 40 pins: 40 C8
part 41 pins: 41 C9
part 42 pins: 42 C10
part 43 pins: 43 C11
part 44 pins: 44 C12
part 45 pins: 45 C13
part 46 pins: 46 C14
part 47 pins: 47 C15
part 48 pins: 48 C16
part 49 pins: 49 C17
part 50 pins: 50 C18
part 51 pins: 51 C19
part 52 pins: 52 C20
part 53 pins: 53 C21
part 54 pins: 54 C22
part 55 pins: 55 C23
part 56 pins: 56 C24
part 57 pins: 57 C25
part 58 pins: 58 C26
part 59 pins: 59 C27
part 60 pins: 60 C28
part 61 pins: 61 C29
part 62 pins: 62 C30
part 63 pins: 63 C31
part 64 pins: 64 C32

## FB-6
designator X?  (value not drawn)
Value: *
footprint FB-6
part A pins: 1 i/o
part B pins: 2 i/o
part C pins: 3 i/o
part D pins: 4 i/o
part E pins: 5 i/o
part F pins: 6 i/o

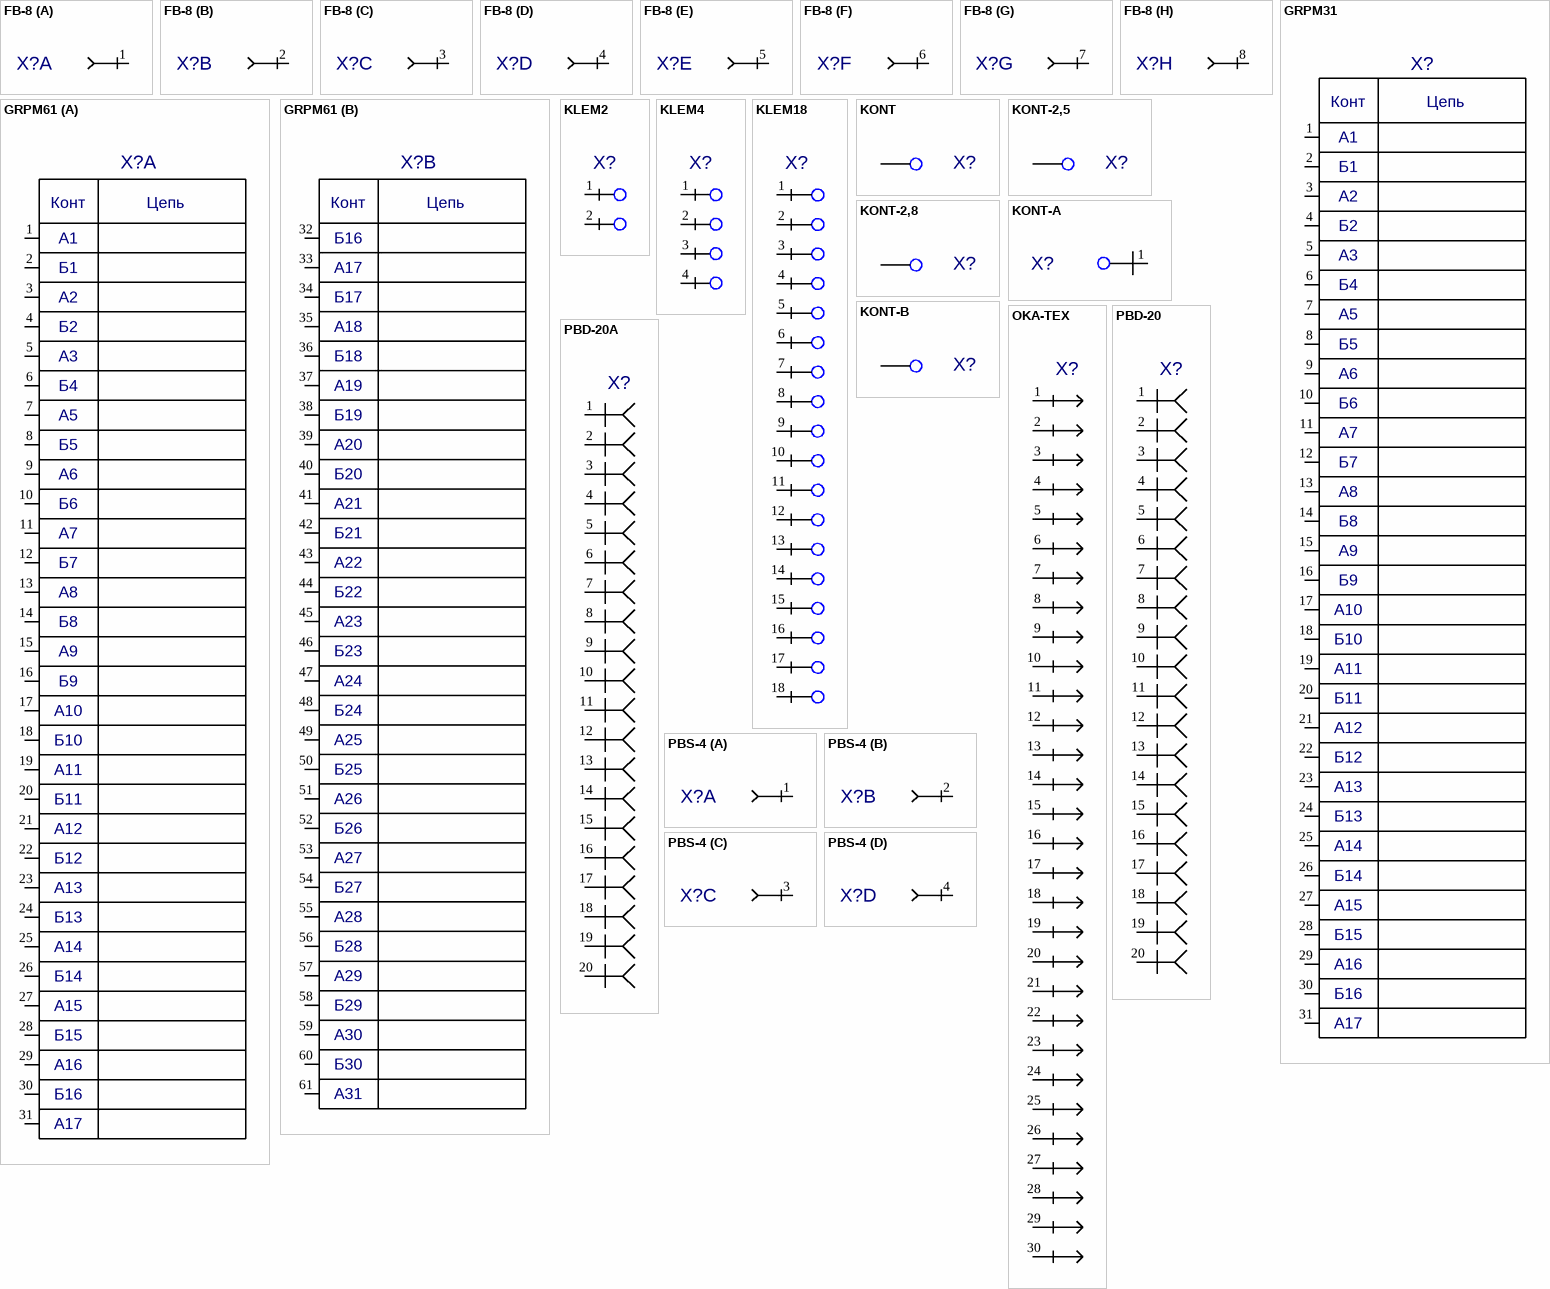
[diagram p10: symbols FB-8 to PBS-4]

## FB-8
designator X?  (value not drawn)
Value: *
footprint FB-8
part A pins: 1 i/o
part B pins: 2 i/o
part C pins: 3 i/o
part D pins: 4 i/o
part E pins: 5 i/o
part F pins: 6 i/o
part G pins: 7 i/o
part H pins: 8 i/o

## GRPM31
designator X?  (value not drawn)
Value: *
footprint GRPM31
pins: 1 B1, 2 A1, 3 B2, 4 A2, 5 B3, 6 A3, 7 B4, 8 A4, 9 B5, 10 A5, 11 B6, 12 A6, 13 B7, 14 A7, 15 B8, 16 A8, 17 B9, 18 A9, 19 B10, 20 A10, 21 B11, 22 A11, 23 B12, 24 A12, 25 B13, 26 A13, 27 B14, 28 A14, 29 B15, 30 A15, 31 B16
text: Конт; Цепь; А1; Б1; А2; Б2; А3; Б4; А5; Б5; А6; Б6; А7; Б7; А8; Б8; А9; Б9; А10; Б10; А11; Б11; А12; Б12; А13; Б13; А14; Б14; А15; Б15; А16; Б16; А17

## GRPM61
designator X?  (value not drawn)
Value: *
footprint GRPM61
part A pins: 1 A1 (io), 2 B1 (io), 3 A2 (io), 4 B2 (io), 5 A3 (io), 6 B3 (io), 7 A4 (io), 8 B4 (io), 9 A5 (io), 10 B5 (io), 11 A6 (io), 12 B6 (io), 13 A7 (io), 14 B7 (io), 15 A8 (io), 16 B8 (io), 17 A9 (io), 18 B9 (io), 19 A10 (io), 20 B10 (io), 21 A11 (io), 22 B11 (io), 23 A12 (io), 24 B12 (io), 25 A13 (io), 26 B13 (io), 27 A14 (io), 28 B14 (io), 29 A15 (io), 30 B15 (io), 31 A16 (io)
part B pins: 32 B16 (io), 33 A17 (io), 34 B17 (io), 35 A18 (io), 36 B18 (io), 37 A19 (io), 38 B19 (io), 39 A20 (io), 40 B20 (io), 41 A21 (io), 42 B21 (io), 43 A22 (io), 44 B22 (io), 45 A23 (io), 46 B23 (io), 47 A24 (io), 48 B24 (io), 49 A25 (io), 50 B25 (io), 51 A26 (io), 52 B26 (io), 53 A27 (io), 54 B27 (io), 55 A28 (io), 56 B28 (io), 57 A29 (io), 58 B29 (io), 59 A30 (io), 60 B30 (io), 61 A31 (io)
part A text: Конт; Цепь; А1; Б1; А2; Б2; А3; Б4; А5; Б5; А6; Б6; А7; Б7; А8; Б8; А9; Б9; А10; Б10; А11; Б11; А12; Б12; А13; Б13; А14; Б14; А15; Б15; А16; Б16; А17
part B text: Конт; Цепь; Б16; А17; Б17; А18; Б18; А19; Б19; А20; Б20; А21; Б21; А22; Б22; А23; Б23; А24; Б24; А25; Б25; А26; Б26; А27; Б27; А28; Б28; А29; Б29; А30; Б30; А31

## KLEM2
designator X?  (value not drawn)
Value: *
footprint KLEM2
pins: 1 I/O1, 2 I/O2

## KLEM4
designator X?  (value not drawn)
Value: *
footprint KLEM4
pins: 1 I/O1, 2 I/O2, 3 I/O3, 4 I/O4

## KLEM18
designator X?  (value not drawn)
Value: *
footprint KLEM18
pins: 1 I/O1, 2 I/O2, 3 I/O3, 4 I/O4, 5 I/O5, 6 I/O6, 7 I/O7, 8 I/O8, 9 I/O9, 10 I/O10, 11 I/O11, 12 I/O12, 13 I/O13, 14 I/O14, 15 I/O15, 16 I/O16, 17 I/O17, 18 I/O18

## KONT
designator X?  (value not drawn)
Value: *
footprint KONT
pins: 1 I/O

## KONT-2,5
designator X?  (value not drawn)
Value: *
footprint KONT-2
pins: 1 I/O

## KONT-2,8
designator X?  (value not drawn)
Value: *
footprint KONT-3
pins: 1 I/O

## KONT-A
designator X?  (value not drawn)
Value: *
footprint KONT-A
pins: 1 i/o

## KONT-B
designator X?  (value not drawn)
Value: *
footprint KONT-PL
pins: 1 I/O

## OKA-TEX
designator X?  (value not drawn)
Value: *
footprint OKA-TEX
pins: 1 I/O1, 2 I/O2, 3 I/O3, 4 I/O4, 5 I/O5, 6 I/O6, 7 I/O7, 8 I/O8, 9 I/O9, 10 I/O10, 11 I/O11, 12 I/O12, 13 I/O13, 14 I/O14, 15 I/O15, 16 I/O16, 17 I/O17, 18 I/O18, 19 I/O19, 20 I/O20, 21 I/O21, 22 I/O22, 23 I/O23, 24 I/O24, 25 I/O25, 26 I/O26, 27 I/O27, 28 I/O28, 29 I/O29, 30 I/O30

## PBD-20
designator X?  (value not drawn)
Value: *
footprint WW10-2
pins: 1 I/O1, 2 I/O2, 3 I/O3, 4 I/O4, 5 I/O5, 6 I/O6, 7 I/O7, 8 I/O8, 9 I/O9, 10 I/O10, 11 I/O11, 12 I/O12, 13 I/O13, 14 I/O14, 15 I/O15, 16 I/O16, 17 I/O17, 18 I/O18, 19 I/O19, 20 I/O20

## PBD-20A
designator X?  (value not drawn)
Value: *
footprint WW10-2A
pins: 1 I/O1, 2 I/O2, 3 I/O3, 4 I/O4, 5 I/O5, 6 I/O6, 7 I/O7, 8 I/O8, 9 I/O9, 10 I/O10, 11 I/O11, 12 I/O12, 13 I/O13, 14 I/O14, 15 I/O15, 16 I/O16, 17 I/O17, 18 I/O18, 19 I/O19, 20 I/O20

## PBS-4
designator X?  (value not drawn)
Value: *
footprint PLB1-4I
part A pins: 1 i/o
part B pins: 2 i/o
part C pins: 3 i/o
part D pins: 4 i/o

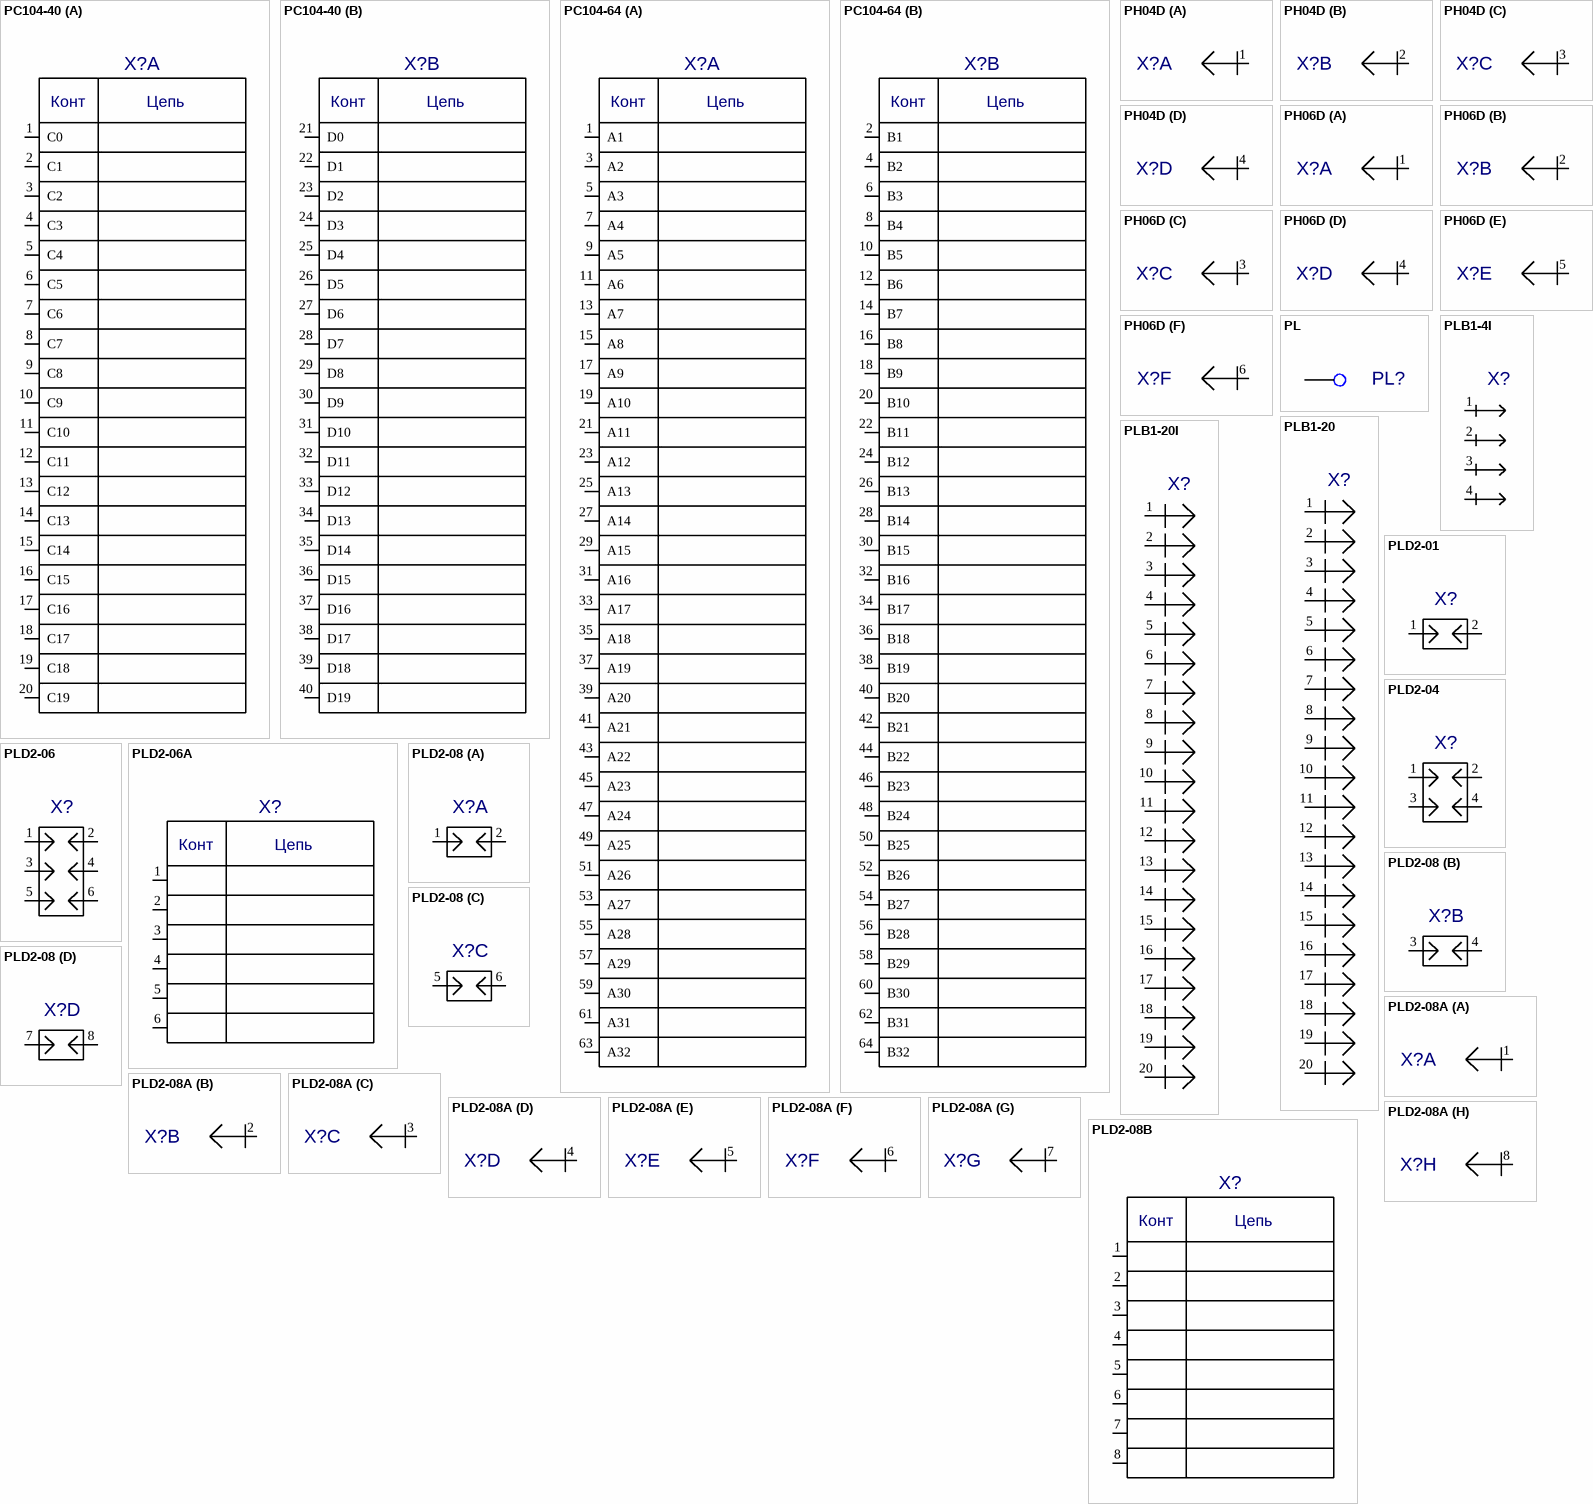
[diagram p11: symbols PC104-40 to PLD2-08B]

## PC104-40
designator X?  (value not drawn)
Value: *
footprint PC104-40
part A pins: 1 C0, 2 C1, 3 C2, 4 C3, 5 C4, 6 C5, 7 C6, 8 C7, 9 C8, 10 C9, 11 C10, 12 C11, 13 C12, 14 C13, 15 C14, 16 C15, 17 C16, 18 C17, 19 C18, 20 C19
part B pins: 21 D0, 22 D1, 23 D2, 24 D3, 25 D4, 26 D5, 27 D6, 28 D7, 29 D8, 30 D9, 31 D10, 32 D11, 33 D12, 34 D13, 35 D14, 36 D15, 37 D16, 38 D17, 39 D18, 40 D19
part A text: Конт; Цепь
part B text: Конт; Цепь

## PC104-64
designator X?  (value not drawn)
Value: *
footprint PC104-64
part A pins: 1 A1, 3 A2, 5 A3, 7 A4, 9 A5, 11 A6, 13 A7, 15 A8, 17 A9, 19 A10, 21 A11, 23 A12, 25 A13, 27 A14, 29 A15, 31 A16, 33 A17, 35 A18, 37 A19, 39 A20, 41 A21, 43 A22, 45 A23, 47 A24, 49 A25, 51 A26, 53 A27, 55 A28, 57 A29, 59 A30, 61 A31, 63 A32
part B pins: 2 B1, 4 B2, 6 B3, 8 B4, 10 B5, 12 B6, 14 B7, 16 B8, 18 B9, 20 B10, 22 B11, 24 B12, 26 B13, 28 B14, 30 B15, 32 B16, 34 B17, 36 B18, 38 B19, 40 B20, 42 B21, 44 B22, 46 B23, 48 B24, 50 B25, 52 B26, 54 B27, 56 B28, 58 B29, 60 B30, 62 B31, 64 B32
part A text: Конт; Цепь
part B text: Конт; Цепь

## PH04D
designator X?  (value not drawn)
Value: *
footprint PH04D
part A pins: 1 i/o
part B pins: 2 i/o
part C pins: 3 i/o
part D pins: 4 i/o

## PH06D
designator X?  (value not drawn)
Value: *
footprint PH06D
part A pins: 1 i/o
part B pins: 2 i/o
part C pins: 3 i/o
part D pins: 4 i/o
part E pins: 5 i/o
part F pins: 6 i/o

## PL
designator PL?  (value not drawn)
Value: *
footprint PL
pins: 1 I/O

## PLB1-4I
designator X?  (value not drawn)
Value: *
footprint PLB1-4I
pins: 1 I/O1, 2 I/O2, 3 I/O3, 4 I/O4

## PLB1-20
designator X?  (value not drawn)
Value: *
footprint PLB1-20
pins: 1 I/O1, 2 I/O2, 3 I/O3, 4 I/O4, 5 I/O5, 6 I/O6, 7 I/O7, 8 I/O8, 9 I/O9, 10 I/O10, 11 I/O11, 12 I/O12, 13 I/O13, 14 I/O14, 15 I/O15, 16 I/O16, 17 I/O17, 18 I/O18, 19 I/O19, 20 I/O20

## PLB1-20I
designator X?  (value not drawn)
Value: *
footprint PLB1-20I
pins: 1 I/O1, 2 I/O2, 3 I/O3, 4 I/O4, 5 I/O5, 6 I/O6, 7 I/O7, 8 I/O8, 9 I/O9, 10 I/O10, 11 I/O11, 12 I/O12, 13 I/O13, 14 I/O14, 15 I/O15, 16 I/O16, 17 I/O17, 18 I/O18, 19 I/O19, 20 I/O20

## PLD2-01
designator X?  (value not drawn)
Value: *
footprint VIP2_PLD2-01(Primary)
pins: 1 I/O0, 2 I/O1

## PLD2-04
designator X?  (value not drawn)
Value: *
footprint WW2-2
pins: 1 I/O1, 2 I/O3, 3 I/O2, 4 I/O0

## PLD2-06
designator X?  (value not drawn)
Value: *
footprint WW3-2
pins: 1 I/O1, 2 I/O5, 3 I/O3, 4 I/O2, 5 I/O4, 6 I/O0

## PLD2-06A
designator X?  (value not drawn)
Value: *
footprint WW3-2
pins: 1 I/O1, 2 I/O2, 3 I/O3, 4 I/O4, 5 I/O5, 6 I/O6
text: Конт; Цепь

## PLD2-08
designator X?  (value not drawn)
Value: *
footprint WW4-2
part A pins: 1 I/O0, 2 I/O1
part B pins: 3 I/O0, 4 I/O1
part C pins: 5 I/O0, 6 I/O1
part D pins: 7 I/O0, 8 I/O1

## PLD2-08A
designator X?  (value not drawn)
Value: *
footprint WW4-2
part A pins: 1 i/o
part B pins: 2 i/o
part C pins: 3 i/o
part D pins: 4 i/o
part E pins: 5 i/o
part F pins: 6 i/o
part G pins: 7 i/o
part H pins: 8 i/o

## PLD2-08B
designator X?  (value not drawn)
Value: *
footprint WW4-2
pins: 1 I/O1, 2 I/O2, 3 I/O3, 4 I/O4, 5 I/O5, 6 I/O6, 7 I/O7, 8 I/O8
text: Конт; Цепь

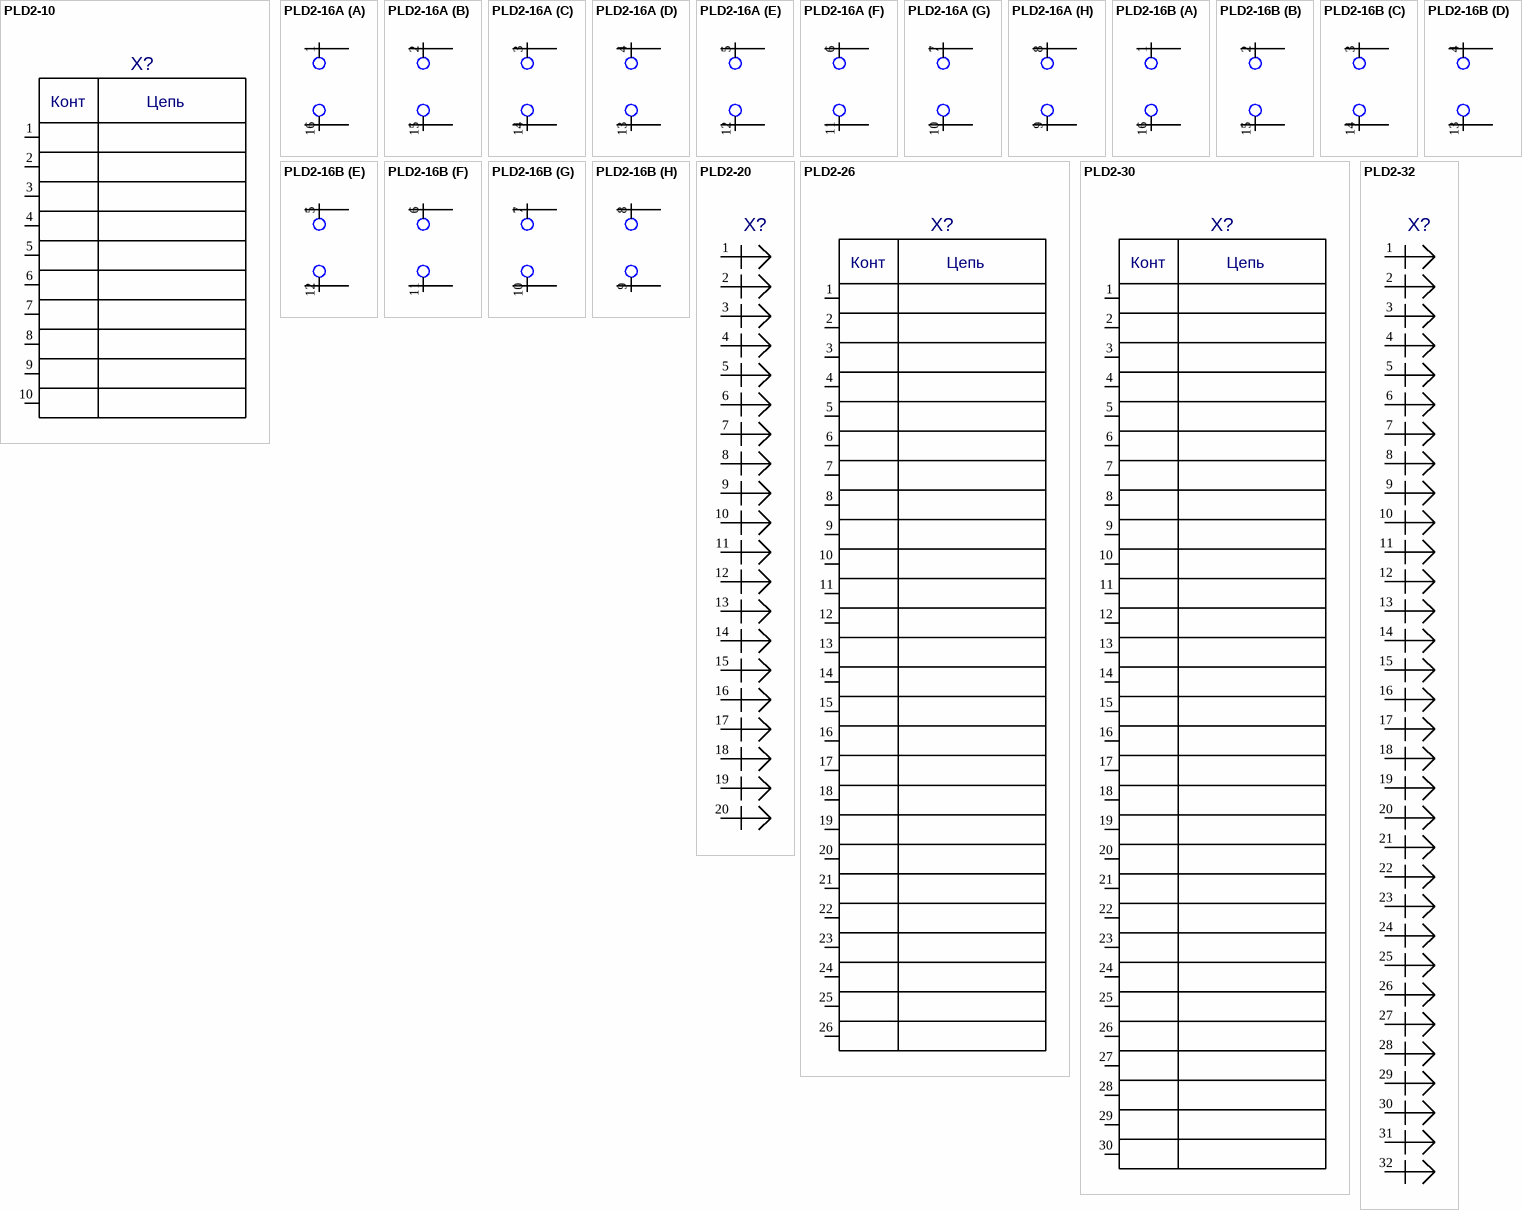
[diagram p12: symbols PLD2-10 to PLD2-32]

## PLD2-10
designator X?  (value not drawn)
Value: *
footprint WW5-2
pins: 1 I/O1, 2 I/O2, 3 I/O3, 4 I/O4, 5 I/O5, 6 I/O6, 7 I/O7, 8 I/O8, 9 I/O9, 10 I/O10
text: Конт; Цепь

## PLD2-16A
designator X?  (value not drawn)
Value: *
footprint PLD8-2
part A pins: 1, 16 2
part B pins: 2 1, 15 2
part C pins: 3 1, 14 2
part D pins: 4 1, 13 2
part E pins: 5 1, 12 2
part F pins: 6 1, 11 2
part G pins: 7 1, 10 2
part H pins: 8 1, 9 2

## PLD2-16B
designator X?  (value not drawn)
Value: *
footprint WW8-2
part A pins: 1, 16 2
part B pins: 2 1, 15 2
part C pins: 3 1, 14 2
part D pins: 4 1, 13 2
part E pins: 5 1, 12 2
part F pins: 6 1, 11 2
part G pins: 7 1, 10 2
part H pins: 8 1, 9 2

## PLD2-20
designator X?  (value not drawn)
Value: *
footprint WW10-2
pins: 1 I/O1, 2 I/O2, 3 I/O3, 4 I/O4, 5 I/O5, 6 I/O6, 7 I/O7, 8 I/O8, 9 I/O9, 10 I/O10, 11 I/O11, 12 I/O12, 13 I/O13, 14 I/O14, 15 I/O15, 16 I/O16, 17 I/O17, 18 I/O18, 19 I/O19, 20 I/O20

## PLD2-26
designator X?  (value not drawn)
Value: *
footprint WW13-2
pins: 1 I/O1, 2 I/O2, 3 I/O3, 4 I/O4, 5 I/O5, 6 I/O6, 7 I/O7, 8 I/O8, 9 I/O9, 10 I/O10, 11 I/O11, 12 I/O12, 13 I/O13, 14 I/O14, 15 I/O15, 16 I/O16, 17 I/O17, 18 I/O18, 19 I/O19, 20 I/O20, 21 I/O21, 22 I/O22, 23 I/O23, 24 I/O24, 25 I/O25, 26 I/O26
text: Конт; Цепь

## PLD2-30
designator X?  (value not drawn)
Value: *
footprint WW15-2
pins: 1 I/O1, 2 I/O2, 3 I/O3, 4 I/O4, 5 I/O5, 6 I/O6, 7 I/O7, 8 I/O8, 9 I/O9, 10 I/O10, 11 I/O11, 12 I/O12, 13 I/O13, 14 I/O14, 15 I/O15, 16 I/O16, 17 I/O17, 18 I/O18, 19 I/O19, 20 I/O20, 21 I/O21, 22 I/O22, 23 I/O23, 24 I/O24, 25 I/O25, 26 I/O26, 27 I/O27, 28 I/O28, 29 I/O29, 30 I/O30
text: Конт; Цепь

## PLD2-32
designator X?  (value not drawn)
Value: *
footprint WW16-2
pins: 1 I/O1, 2 I/O2, 3 I/O3, 4 I/O4, 5 I/O5, 6 I/O6, 7 I/O7, 8 I/O8, 9 I/O9, 10 I/O10, 11 I/O11, 12 I/O12, 13 I/O13, 14 I/O14, 15 I/O15, 16 I/O16, 17 I/O17, 18 I/O18, 19 I/O19, 20 I/O20, 21 I/O21, 22 I/O22, 23 I/O23, 24 I/O24, 25 I/O25, 26 I/O26, 27 I/O27, 28 I/O28, 29 I/O29, 30 I/O30, 31 I/O31, 32 I/O32

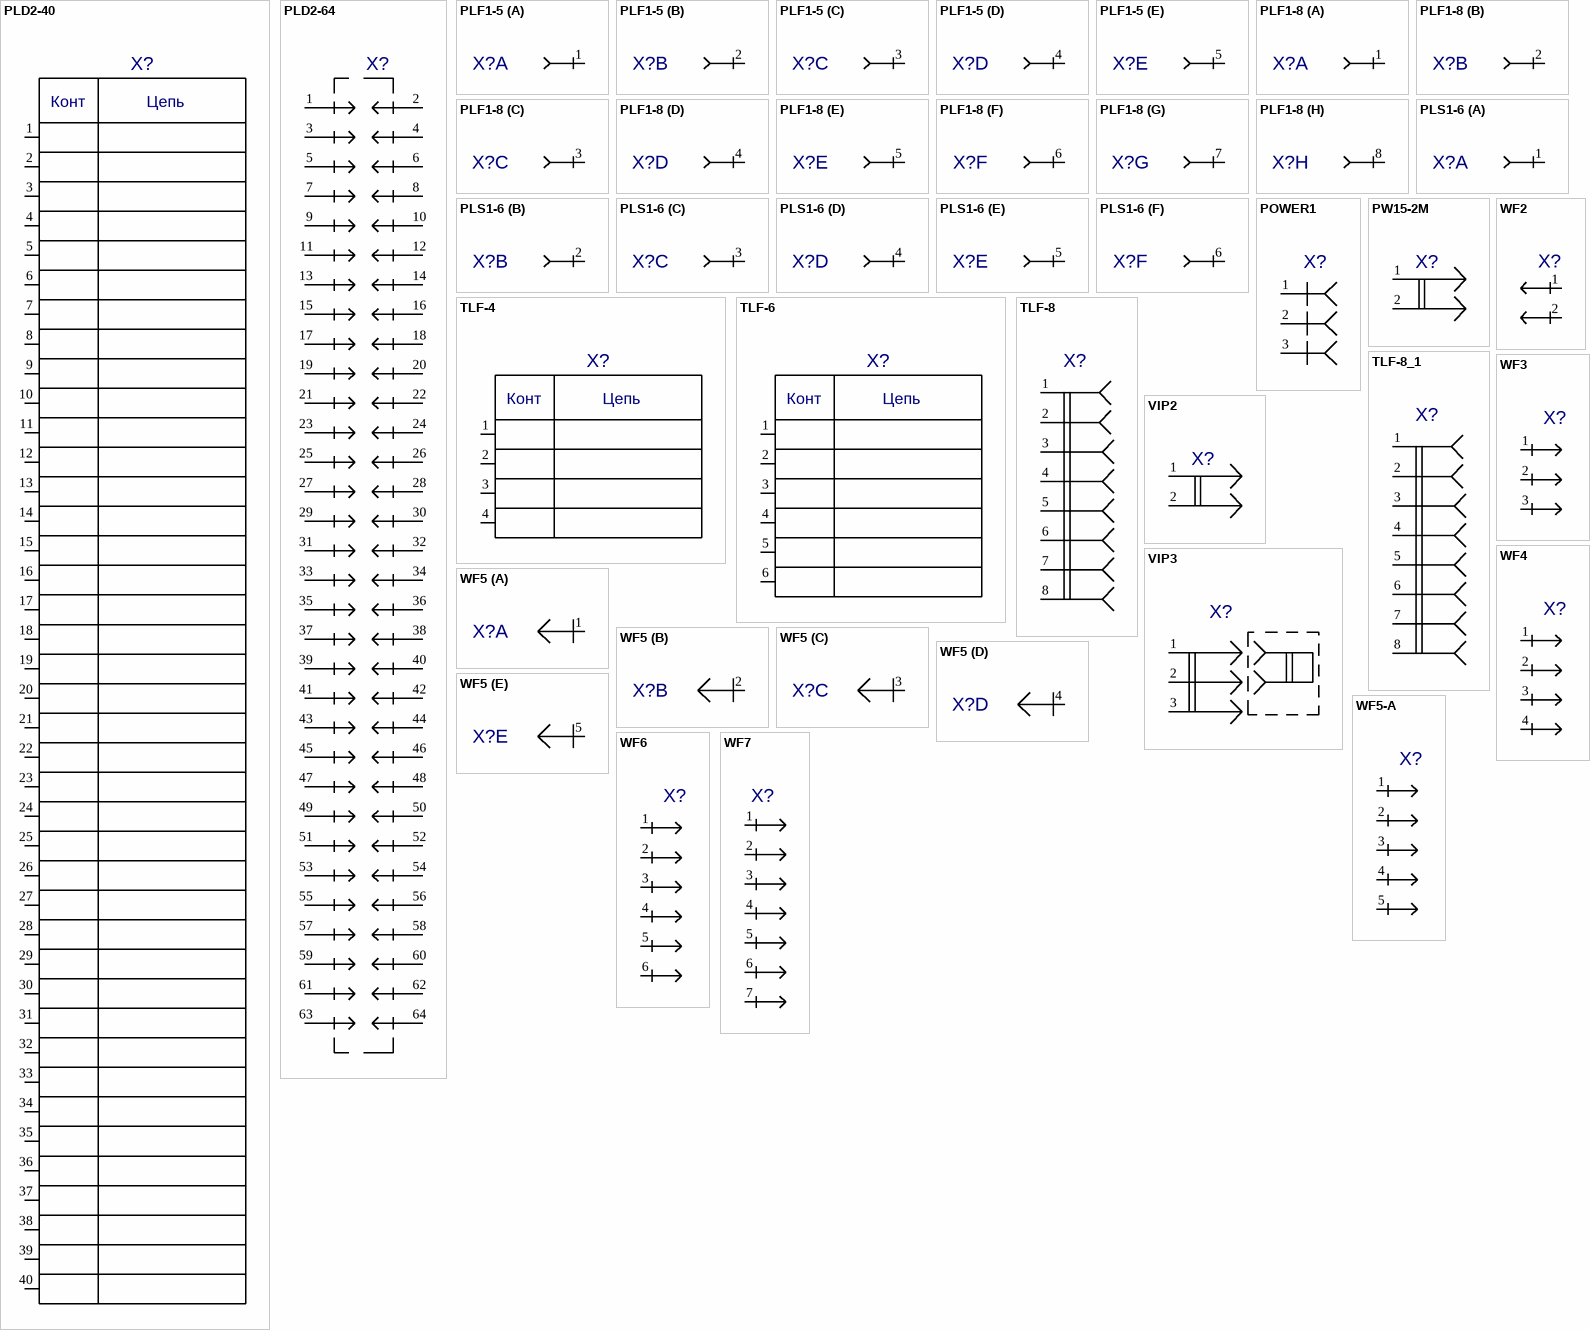
[diagram p13: symbols PLD2-40 to WF7]

## PLD2-40
designator X?  (value not drawn)
Value: *
footprint WW20-2
pins: 1 I/O1, 2 I/O2, 3 I/O3, 4 I/O4, 5 I/O5, 6 I/O6, 7 I/O7, 8 I/O8, 9 I/O9, 10 I/O10, 11 I/O11, 12 I/O12, 13 I/O13, 14 I/O14, 15 I/O15, 16 I/O16, 17 I/O17, 18 I/O18, 19 I/O19, 20 I/O20, 21 I/O21, 22 I/O22, 23 I/O23, 24 I/O24, 25 I/O25, 26 I/O26, 27 I/O27, 28 I/O28, 29 I/O29, 30 I/O30, 31 I/O31, 32 I/O32, 33 I/O33, 34 I/O34, 35 I/O35, 36 I/O36, 37 I/O37, 38 I/O38, 39 I/O39, 40 I/O40
text: Конт; Цепь

## PLD2-64
designator X?  (value not drawn)
Value: *
footprint PLD64-2
pins: 1 I/O1, 2 I/O2, 3 I/O3, 4 I/O4, 5 I/O5, 6 I/O6, 7 I/O7, 8 I/O8, 9 I/O9, 10 I/O10, 11 I/O11, 12 I/O12, 13 I/O13, 14 I/O14, 15 I/O15, 16 I/O16, 17 I/O17, 18 I/O18, 19 I/O19, 20 I/O20, 21 I/O21, 22 I/O22, 23 I/O23, 24 I/O24, 25 I/O25, 26 I/O26, 27 I/O27, 28 I/O28, 29 I/O29, 30 I/O30, 31 I/O31, 32 I/O32, 33 I/O33, 34 I/O34, 35 I/O35, 36 I/O36, 37 I/O37, 38 I/O38, 39 I/O39, 40 I/O40, 41 I/O41, 42 I/O42, 43 I/O43, 44 I/O44, 45 I/O45, 46 I/O46, 47 I/O47, 48 I/O48, 49 I/O49, 50 I/O50, 51 I/O51, 52 I/O52, 53 I/O53, 54 I/O54, 55 I/O55, 56 I/O56, 57 I/O57, 58 I/O58, 59 I/O59, 60 I/O60, 61 I/O61, 62 I/O62, 63 I/O63, 64 I/O64

## PLF1-5
designator X?  (value not drawn)
Value: *
footprint PLB1-5
part A pins: 1 i/o
part B pins: 2 i/o
part C pins: 3 i/o
part D pins: 4 i/o
part E pins: 5 i/o

## PLF1-8
designator X?  (value not drawn)
Value: *
footprint PLB1-8
part A pins: 1 i/o
part B pins: 2 i/o
part C pins: 3 i/o
part D pins: 4 i/o
part E pins: 5 i/o
part F pins: 6 i/o
part G pins: 7 i/o
part H pins: 8 i/o

## PLS1-6
designator X?  (value not drawn)
Value: *
footprint PLB1-6
part A pins: 1 i/o
part B pins: 2 i/o
part C pins: 3 i/o
part D pins: 4 i/o
part E pins: 5 i/o
part F pins: 6 i/o

## POWER1
designator X?  (value not drawn)
Value: *
footprint POWER1_POWER1(Primary)
pins: 1 I/O1, 2 I/O2, 3 I/O3

## PW15-2M
designator X?  (value not drawn)
Value: *
footprint PW15-2M
pins: 1 I/O1, 2 I/O2

## TLF-4
designator X?  (value not drawn)
Value: *
footprint TLF-4
pins: 1 I/O1, 2 I/O2, 3 I/O3, 4 I/O4
text: Конт; Цепь

## TLF-6
designator X?  (value not drawn)
Value: *
footprint TLF-6
pins: 1, 2, 3, 4, 5, 6, 7 hidden, 8 hidden
text: Конт; Цепь

## TLF-8
designator X?  (value not drawn)
Value: *
footprint TELEF-8
pins: 1 I/O1, 2 I/O2, 3 I/O3, 4 I/O4, 5 I/O5, 6 I/O6, 7 I/O7, 8 I/O8

## TLF-8_1
designator X?  (value not drawn)
Value: *
footprint TEL-8_1
pins: 1 I/O1, 2 I/O2, 3 I/O3, 4 I/O4, 5 I/O5, 6 I/O6, 7 I/O7, 8 I/O8

## VIP2
designator X?  (value not drawn)
Value: *
footprint VIP2
pins: 1 I/O1, 2 I/O2

## VIP3
designator X?  (value not drawn)
Value: *
footprint VIP3
pins: 1 I/O1, 2 I/O2, 3 I/O3

## WF2
designator X?  (value not drawn)
Value: *
footprint WF2
pins: 1 i/o, 2 i/o

## WF3
designator X?  (value not drawn)
Value: *
footprint WF3
pins: 1 I/O3, 2 I/O1, 3 I/O2

## WF4
designator X?  (value not drawn)
Value: *
footprint WF4
pins: 1 I/O1, 2 I/O2, 3 I/O3, 4 I/O4

## WF5
designator X?  (value not drawn)
Value: *
footprint WF5
part A pins: 1 i/o
part B pins: 2 i/o
part C pins: 3 i/o
part D pins: 4 i/o
part E pins: 5 i/o

## WF5-A
designator X?  (value not drawn)
Value: *
footprint WF5
pins: 1 I/O1, 2 I/O2, 3 I/O3, 4 I/O4, 5 I/O5

## WF6
designator X?  (value not drawn)
Value: *
footprint WF6
pins: 1 I/O1, 2 I/O2, 3 I/O3, 4 I/O4, 5 I/O5, 6 I/O6

## WF7
designator X?  (value not drawn)
Value: *
footprint WF7
pins: 1 I/O1, 2 I/O2, 3 I/O3, 4 I/O4, 5 I/O5, 6 I/O6, 7 I/O7

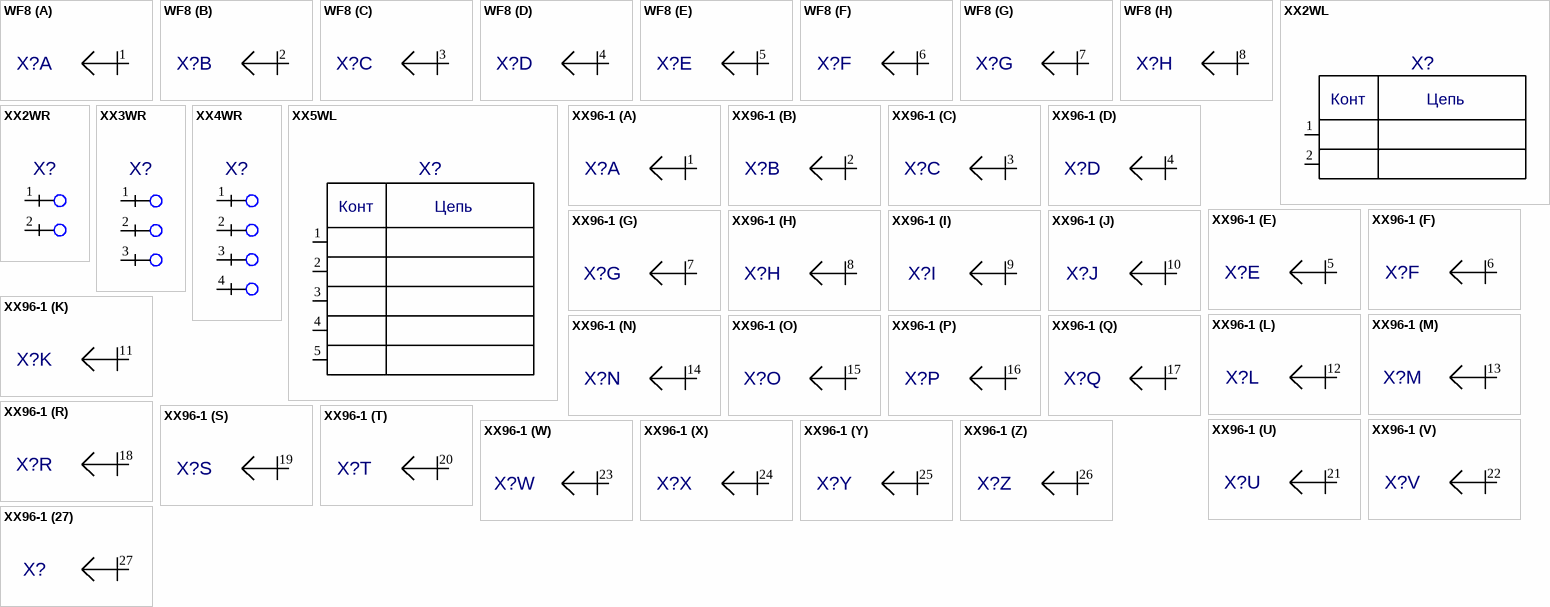
[diagram p14: symbols WF8 to XX96-1]

## WF8
designator X?  (value not drawn)
Value: *
footprint WF8
part A pins: 1 i/o
part B pins: 2 i/o
part C pins: 3 i/o
part D pins: 4 i/o
part E pins: 5 i/o
part F pins: 6 i/o
part G pins: 7 i/o
part H pins: 8 i/o

## XX2WL
designator X?  (value not drawn)
Value: *
footprint XX2WL
pins: 1 I/O1, 2 I/O2
text: Конт; Цепь

## XX2WR
designator X?  (value not drawn)
Value: *
footprint XX2WR
pins: 1 I/O1, 2 I/O2

## XX3WR
designator X?  (value not drawn)
Value: *
footprint XX3WR
pins: 1 I/O1, 2 I/O2, 3 I/O3

## XX4WR
designator X?  (value not drawn)
Value: *
footprint XX4WR
pins: 1 I/O1, 2 I/O2, 3 I/O3, 4 I/O4

## XX5WL
designator X?  (value not drawn)
Value: *
footprint XX5WL
pins: 1 I/O1, 2 I/O2, 3 I/O3, 4 I/O4, 5 I/O5
text: Конт; Цепь

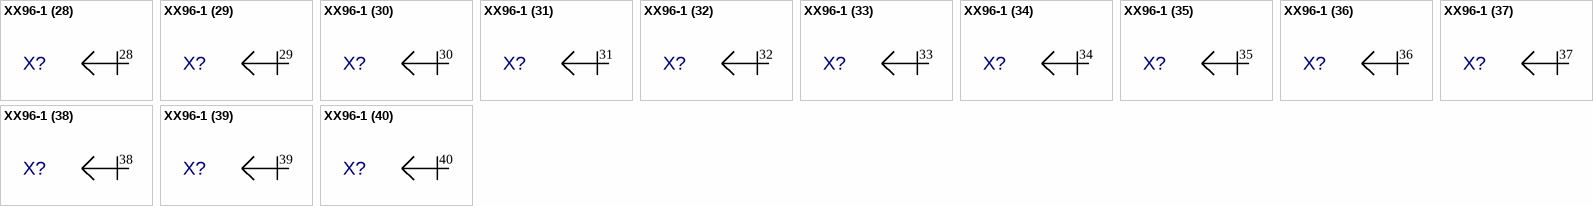
[diagram p15: symbol XX96-1]

## XX96-1
designator X?  (value not drawn)
Value: *
footprint XX96
pins on every part: 97 hidden, 98 hidden
part A pins: 1 A1
part B pins: 2 A2
part C pins: 3 A3
part D pins: 4 A4
part E pins: 5 A5
part F pins: 6 A6
part G pins: 7 A7
part H pins: 8 A8
part I pins: 9 A9
part J pins: 10 A10
part K pins: 11 A11
part L pins: 12 A12
part M pins: 13 A13
part N pins: 14 A14
part O pins: 15 A15
part P pins: 16 A16
part Q pins: 17 A17
part R pins: 18 A18
part S pins: 19 A19
part T pins: 20 A20
part U pins: 21 A21
part V pins: 22 A22
part W pins: 23 A23
part X pins: 24 A24
part Y pins: 25 A25
part Z pins: 26 A26
part 27 pins: 27 A27
part 28 pins: 28 A28
part 29 pins: 29 A29
part 30 pins: 30 A30
part 31 pins: 31 A31
part 32 pins: 32 A32
part 33 pins: 33 B1
part 34 pins: 34 B2
part 35 pins: 35 B3
part 36 pins: 36 B4
part 37 pins: 37 B5
part 38 pins: 38 B6
part 39 pins: 39 B7
part 40 pins: 40 B8
part 41 pins: 41 B9
part 42 pins: 42 B10
part 43 pins: 43 B11
part 44 pins: 44 B12
part 45 pins: 45 B13
part 46 pins: 46 B14
part 47 pins: 47 B15
part 48 pins: 48 B16
part 49 pins: 49 B17
part 50 pins: 50 B18
part 51 pins: 51 B19
part 52 pins: 52 B20
part 53 pins: 53 B21
part 54 pins: 54 B22
part 55 pins: 55 B23
part 56 pins: 56 B24
part 57 pins: 57 B25
part 58 pins: 58 B26
part 59 pins: 59 B27
part 60 pins: 60 B28
part 61 pins: 61 B29
part 62 pins: 62 B30
part 63 pins: 63 B31
part 64 pins: 64 B32
part 65 pins: 65 C1
part 66 pins: 66 C2
part 67 pins: 67 C3
part 68 pins: 68 C4
part 69 pins: 69 C5
part 70 pins: 70 C6
part 71 pins: 71 C7
part 72 pins: 72 C8
part 73 pins: 73 C9
part 74 pins: 74 C10
part 75 pins: 75 C11
part 76 pins: 76 C12
part 77 pins: 77 C13
part 78 pins: 78 C14
part 79 pins: 79 C15
part 80 pins: 80 C16
part 81 pins: 81 C17
part 82 pins: 82 C18
part 83 pins: 83 C19
part 84 pins: 84 C20
part 85 pins: 85 C21
part 86 pins: 86 C22
part 87 pins: 87 C23
part 88 pins: 88 C24
part 89 pins: 89 C25
part 90 pins: 90 C26
part 91 pins: 91 C27
part 92 pins: 92 C28
part 93 pins: 93 C29
part 94 pins: 94 C30
part 95 pins: 95 C31
part 96 pins: 96 C32